# Altium schematic symbol library UNTClibrary.SchLib: 230 symbols (part 1 of 2)
Pins are listed as number, name and electrical type; pins without a type are passive.

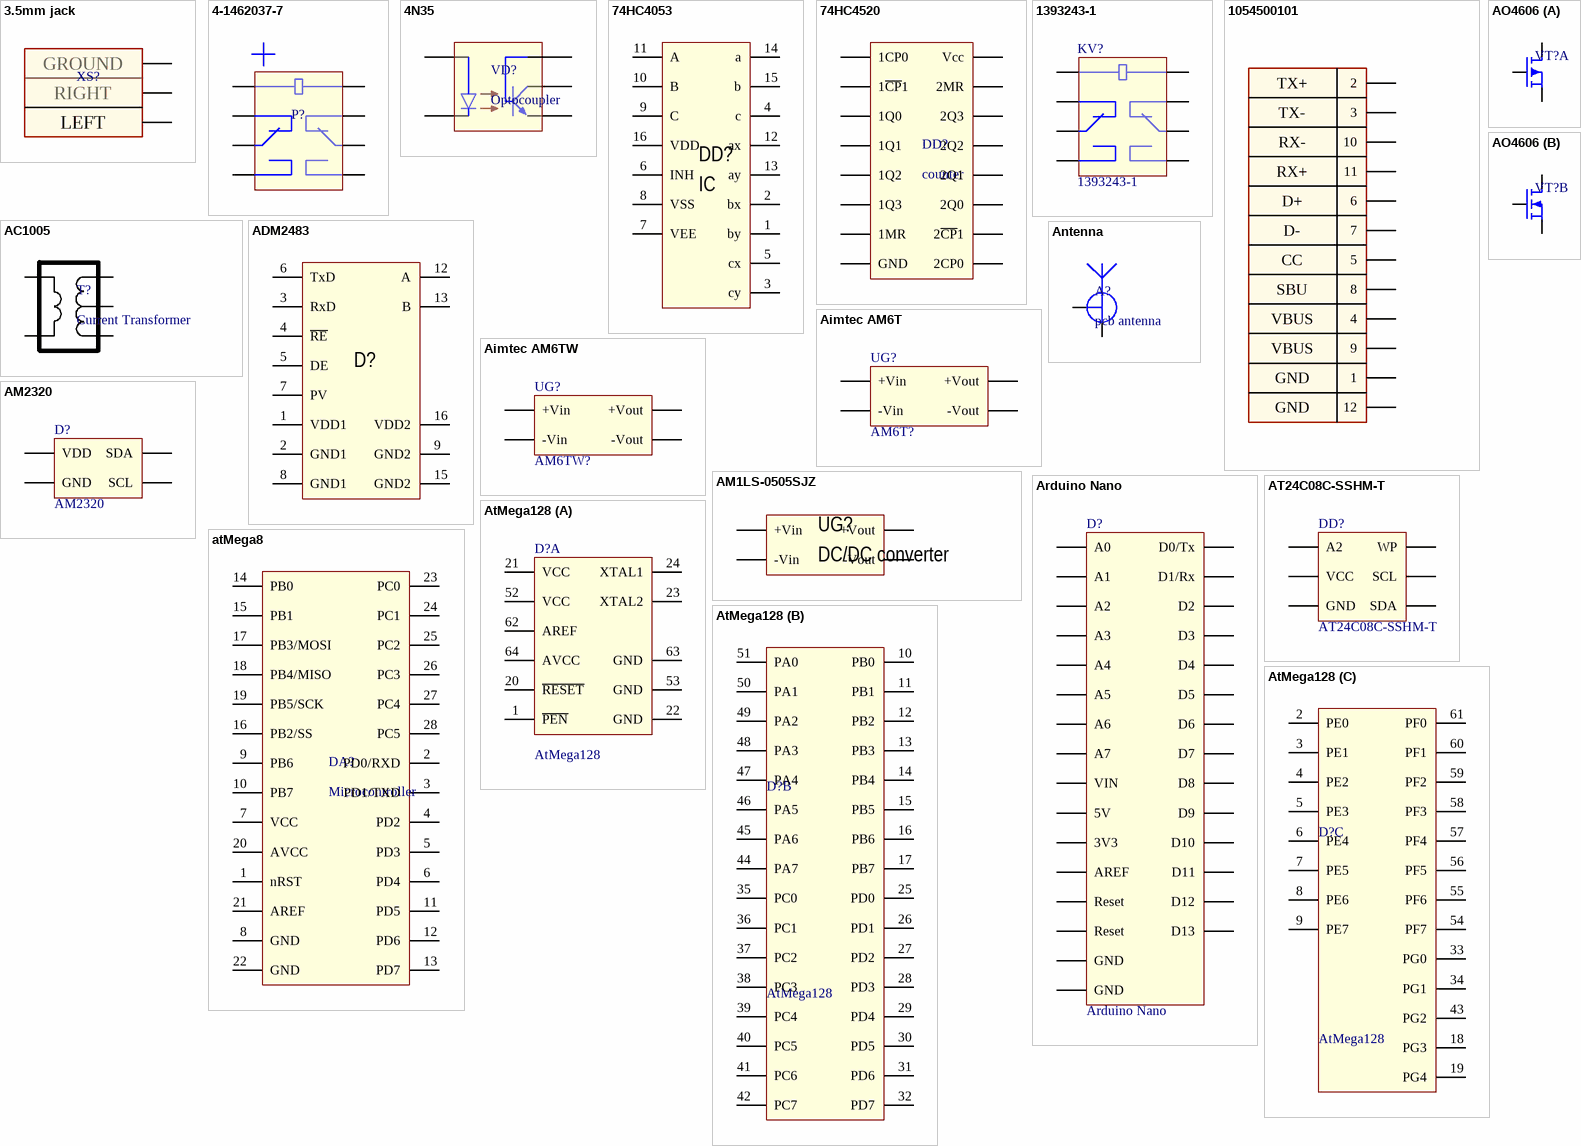
[diagram p0: symbols 3.5mm jack to AtMega128]

## 3.5mm jack
designator XS?, comment Connector  (value not drawn)
Audio Jack; Part Number: *
footprint 3.5 MM JACK
pins: 0 hidden, 1 G, 2, 3
text: GROUND; RIGHT; LEFT

## 4-1462037-7
designator P?, comment Electromagnetic relay  (value not drawn)
Relay; Part Number: TQ2-12V
footprint 4-1462037-7 (Relay signal)
pins: 1, 2, 3, 4, 5 7, 6, 7, 8

## 4N35
designator VD?, comment Optocoupler
Part Number: 4N35
footprint DIP6
pins: 1, 2 NC hidden, 3, 4, 5, 6

## 74HC4053
designator DD?, comment IC
Multiplexer analog; Manufacturer: NXP/ Nexperia; Part Number: 74HC4053; URL: https://assets.nexperia.com/documents/data-sheet/74HC_HCT4053.pdf
footprint SO16
pins: 1 by, 2 bx, 3 cy, 4 c, 5 cx, 6 INH, 7 VEE, 8 VSS, 9 C, 10 B, 11 A, 12 ax, 13 ay, 14 a, 15 b, 16 VDD

## 74HC4520
designator DD?, comment counter
Part Number: 74HC4520
footprint SO16
pins: 1 1CP0, 2 1~{CP}1, 3 1Q0, 4 1Q1, 5 1Q2, 6 1Q3, 7 1MR, 8 GND, 9 2CP0, 10 2~{CP}1, 11 2Q0, 12 2Q1, 13 2Q2, 14 2Q3, 15 2MR, 16 Vcc

## 1393243-1
designator KV?, comment Part Number: 1393243-1  (hidden comment: Electromagnetic relay)
Relay
footprint 1393243-1 (Relay RTE24005)
pins: 1, 2, 3, 4, 5, 6, 7, 8

## 1054500101
designator *
footprint 1054500101 (USB Type-C)
pins: 1, 2, 3, 4, 5, 6, 7, 8, 9, 10, 11, 12, NC hidden
text: TX+; TX-; RX-; RX+; D+; D-; CC; SBU; VBUS; GND

## AC1005
designator T?, comment Current Transformer
Part Number: AC1005
footprint AC1005
pins: 1, 2, 3, 4, 5

## ADM2483
designator D?, comment IC  (value not drawn)
RS-485 transceiver Isolated; Manufacturer: AD; URL: https://www.analog.com/media/en/technical-documentation/data-sheets/adm2483.pdf
footprint SOIC_W16 (SOP, 16-Leads, Body 10,30x7,50mm, Pitch 1,27mm, IPC Medium Density)
pins: 1 VDD1, 2 GND1, 3 RxD, 4 ~{RE}, 5 DE, 6 TxD, 7 PV, 8 GND1, 9 GND2, 10 NC hidden, 11 NC hidden, 12 A, 13 B, 14 NC hidden, 15 GND2, 16 VDD2

## Aimtec AM6T
designator UG?, comment Part Number: AM6T?  (hidden comment: DC/DC converter)
footprint Aimtec AM6T
pins: 2 -Vin, 14 +Vout, 16 -Vout, 22 +Vin

## Aimtec AM6TW
designator UG?, comment Part Number: AM6TW?  (hidden comment: DC/DC converter)
footprint Aimtec AM6TW
pins: 1 +Vin, 2 -Vin, 3 +Vout, 4 -Vout

## AM1LS-0505SJZ
designator UG?, comment DC/DC converter
Manufacturer: Aimtec
footprint AM1LS-NZ
pins: 0 hidden, 1 -Vin, 2 +Vin, 3 -Vout, 4 +Vout

## AM2320
designator D?
Temperature/Humadity Module; Part Number: AM2320
footprint AM2320 without CASE
footprint AM2320 bended
pins: GND, SCL, SDA, VDD

## Antenna
designator A?, comment pcb antenna  (net tie, no BOM)
Antenna on PCB (no BOM)
footprint PCB antenna 13.56 MHz (PCB antenna)
footprint PCB antenna 2 (PCB antenna 35х35)
pins: 1, 2

## AO4606
designator VT?, comment Transistor N-channel dual  (value not drawn)
Part Number: AO4606
footprint SOP-8 (transistor dual) (2xP-ch transistor)
part A pins: D2 6, G2 1, S2 5
part B pins: D1 4, G1 3, S1 2

## Arduino Nano
designator D?
Part Number: Arduino Nano
footprint Arduino Nano
pins: 1 D0/Tx, 2 D1/Rx, 3 Reset, 4 GND, 5 D2, 6 D3, 7 D4, 8 D5, 9 D6, 10 D7, 11 D8, 12 D9, 13 D10, 14 D11, 15 D12, 16 D13, 17 3V3, 18 AREF, 19 A0, 20 A1, 21 A2, 22 A3, 23 A4, 24 A5, 25 A6, 26 A7, 27 5V, 28 Reset, 29 GND, 30 VIN

## AT24C08C-SSHM-T
designator DD?, comment Part Number: AT24C08C-SSHM-T  (hidden comment: EEPROM)
footprint SOP-8
pins: 1 NC hidden, 2 NC hidden, 3 A2, 4 GND, 5 SDA, 6 SCL, 7 WP, 8 VCC

## atMega8
designator DA?, comment Microcontroller
Manufacturer: Microchip; Part Number: ATmega8L-8AU; URL: https://ww1.microchip.com/downloads/en/DeviceDoc/Atmel-2486-8-bit-AVR-microcontroller-ATmega8_L_datasheet.pdf
footprint DIP28
pins: 1 nRST, 2 PD0/RXD, 3 PD1/TXD, 4 PD2, 5 PD3, 6 PD4, 7 VCC, 8 GND, 9 PB6, 10 PB7, 11 PD5, 12 PD6, 13 PD7, 14 PB0, 15 PB1, 16 PB2/SS, 17 PB3/MOSI, 18 PB4/MISO, 19 PB5/SCK, 20 AVCC, 21 AREF, 22 GND, 23 PC0, 24 PC1, 25 PC2, 26 PC3, 27 PC4, 28 PC5

## AtMega128
designator D?
Microcontroller; Part Number: AtMega128
footprint TQFP-64
part A pins: 1 ~{PEN}, 20 ~{RESET}, 21 VCC, 22 GND, 23 XTAL2, 24 XTAL1, 52 VCC, 53 GND, 62 AREF, 63 GND, 64 AVCC
part B pins: 10 PB0, 11 PB1, 12 PB2, 13 PB3, 14 PB4, 15 PB5, 16 PB6, 17 PB7, 25 PD0, 26 PD1, 27 PD2, 28 PD3, 29 PD4, 30 PD5, 31 PD6, 32 PD7, 35 PC0, 36 PC1, 37 PC2, 38 PC3, 39 PC4, 40 PC5, 41 PC6, 42 PC7, 44 PA7, 45 PA6, 46 PA5, 47 PA4, 48 PA3, 49 PA2, 50 PA1, 51 PA0
part C pins: 2 PE0, 3 PE1, 4 PE2, 5 PE3, 6 PE4, 7 PE5, 8 PE6, 9 PE7, 18 PG3, 19 PG4, 33 PG0, 34 PG1, 43 PG2, 54 PF7, 55 PF6, 56 PF5, 57 PF4, 58 PF3, 59 PF2, 60 PF1, 61 PF0

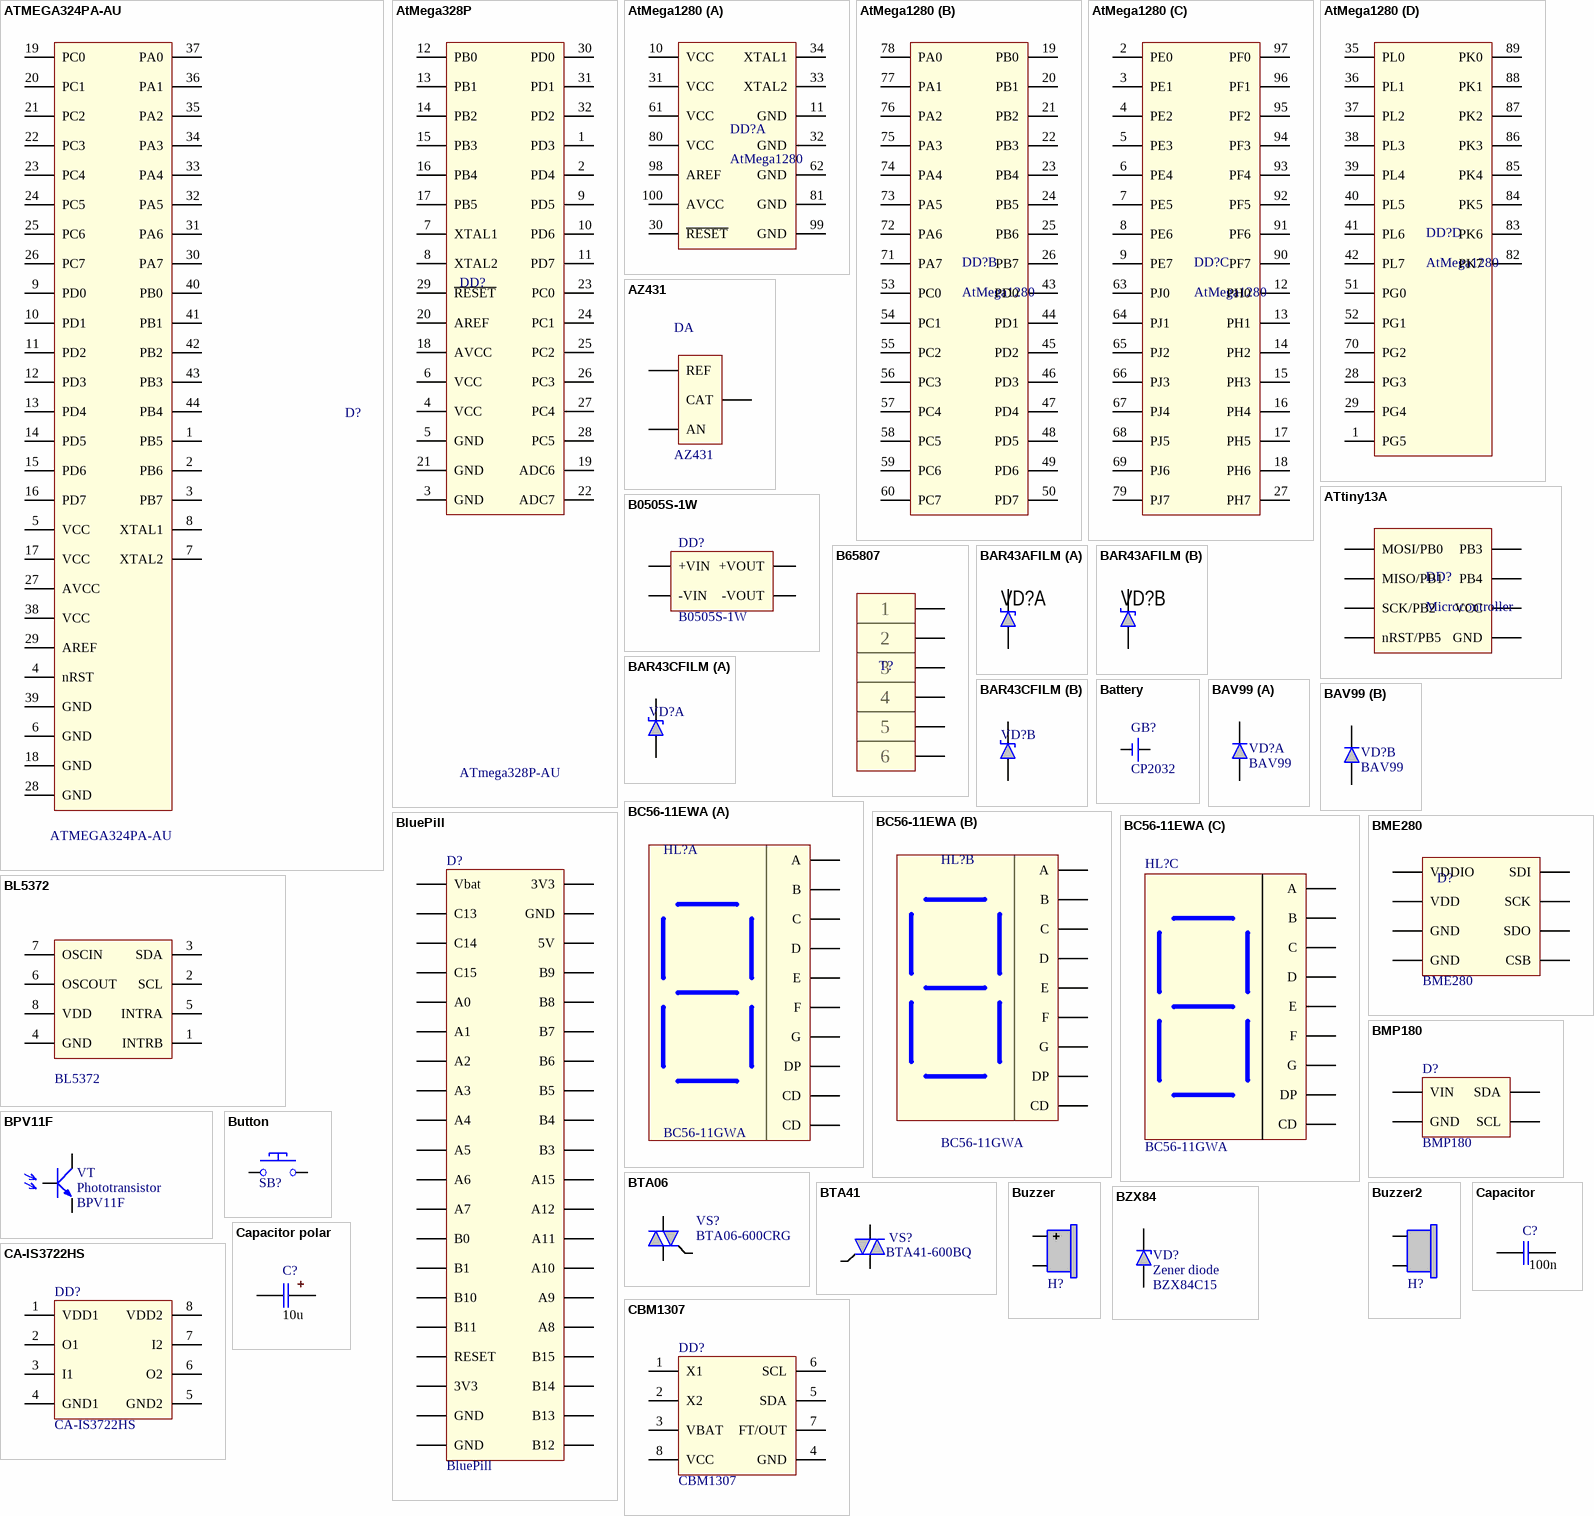
[diagram p1: symbols ATMEGA324PA-AU to CBM1307]

## ATMEGA324PA-AU
designator D?, comment Part Number: ATMEGA324PA-AU  (hidden comment: Microcontroller)
Manufacturer: Microchip; URL: *
footprint TQFP44 (TQFP, 44-Leads, Body 10,00x10,00mm, Pitch 0,80mm, IPC Medium Density)
pins: 1 PB5, 2 PB6, 3 PB7, 4 nRST, 5 VCC, 6 GND, 7 XTAL2, 8 XTAL1, 9 PD0, 10 PD1, 11 PD2, 12 PD3, 13 PD4, 14 PD5, 15 PD6, 16 PD7, 17 VCC, 18 GND, 19 PC0, 20 PC1, 21 PC2, 22 PC3, 23 PC4, 24 PC5, 25 PC6, 26 PC7, 27 AVCC, 28 GND, 29 AREF, 30 PA7, 31 PA6, 32 PA5, 33 PA4, 34 PA3, 35 PA2, 36 PA1, 37 PA0, 38 VCC, 39 GND, 40 PB0, 41 PB1, 42 PB2, 43 PB3, 44 PB4

## AtMega328P
designator DD?, comment Part Number: ATmega328P-AU  (hidden comment: Microcontroller)
Manufacturer: Microchip; ComponentLink1Description: New link; ComponentLink1URL: http://ww1.microchip.com/downloads/en/DeviceDoc/Atmel-7810-Automotive-Microcontrollers-ATmega328P_Datasheet.pdf
footprint TQFP32 (TQFP, 32-Leads, Body 7,00x7,00mm, Pitch 0,80mm, IPC Medium Density)
pins: 1 PD3, 2 PD4, 3 GND, 4 VCC, 5 GND, 6 VCC, 7 XTAL1, 8 XTAL2, 9 PD5, 10 PD6, 11 PD7, 12 PB0, 13 PB1, 14 PB2, 15 PB3, 16 PB4, 17 PB5, 18 AVCC, 19 ADC6, 20 AREF, 21 GND, 22 ADC7, 23 PC0, 24 PC1, 25 PC2, 26 PC3, 27 PC4, 28 PC5, 29 ~{RESET}, 30 PD0, 31 PD1, 32 PD2

## AtMega1280
designator DD?
footprint TQFP-100 (pitch 0.5 mm)
part A pins: 10 VCC, 11 GND, 30 ~{RESET}, 31 VCC, 32 GND, 33 XTAL2, 34 XTAL1, 61 VCC, 62 GND, 80 VCC, 81 GND, 98 AREF, 99 GND, 100 AVCC
part B pins: 19 PB0, 20 PB1, 21 PB2, 22 PB3, 23 PB4, 24 PB5, 25 PB6, 26 PB7, 43 PD0, 44 PD1, 45 PD2, 46 PD3, 47 PD4, 48 PD5, 49 PD6, 50 PD7, 53 PC0, 54 PC1, 55 PC2, 56 PC3, 57 PC4, 58 PC5, 59 PC6, 60 PC7, 71 PA7, 72 PA6, 73 PA5, 74 PA4, 75 PA3, 76 PA2, 77 PA1, 78 PA0
part C pins: 2 PE0, 3 PE1, 4 PE2, 5 PE3, 6 PE4, 7 PE5, 8 PE6, 9 PE7, 12 PH0, 13 PH1, 14 PH2, 15 PH3, 16 PH4, 17 PH5, 18 PH6, 27 PH7, 63 PJ0, 64 PJ1, 65 PJ2, 66 PJ3, 67 PJ4, 68 PJ5, 69 PJ6, 79 PJ7, 90 PF7, 91 PF6, 92 PF5, 93 PF4, 94 PF3, 95 PF2, 96 PF1, 97 PF0
part D pins: 1 PG5, 28 PG3, 29 PG4, 35 PL0, 36 PL1, 37 PL2, 38 PL3, 39 PL4, 40 PL5, 41 PL6, 42 PL7, 51 PG0, 52 PG1, 70 PG2, 82 PK7, 83 PK6, 84 PK5, 85 PK4, 86 PK3, 87 PK2, 88 PK1, 89 PK0

## ATtiny13A
designator DD?, comment Microcontroller
Part Number: ATtiny13A-PU; Manufacturer: Microchip
footprint SOIC-8 (SOIC, 8-Leads, Body 5,28x5,28mm, Pitch 1,27mm, IPC Medium Density)
pins: 1 nRST/PB5, 2 PB3, 3 PB4, 4 GND, 5 MOSI/PB0, 6 MISO/PB1, 7 SCK/PB2, 8 VCC

## AZ431
designator DA, comment Part Number: AZ431  (hidden comment: shunt regulator)
Adjustable precision shunt regulator
footprint SOT23-3
pins: 1 REF, 2 CAT, 3 AN

## B0505S-1W
designator DD?, comment Part Number: B0505S-1W  (hidden comment: DC/DC converter)
footprint B0505S
pins: 1 -Vin, 2 +Vin, 3 -Vout, 4 +Vout
text: +VIN; +VOUT; -VIN; -VOUT

## B65807
designator T?, comment Transformer  (value not drawn)
Part Number: B65807
footprint RM-6, EPCOS
pins: 0 1 hidden, 1, 2, 3, 4, 5, 6

## BAR43AFILM
designator VD?, comment Schottky diode  (value not drawn)
Diode Schottky; Manufacturer: ST; Part Number: BAR43AFILM
footprint SOT23-3
part A pins: 2, 3
part B pins: 1, 3

## BAR43CFILM
designator VD?, comment Schottky diode  (value not drawn)
Diode Schottky; Part Number: BAR43CFILM
footprint SOT23-3
part A pins: 1, 3
part B pins: 2, 3

## Battery
designator GB?, comment Part Number: CP2032  (hidden comment: Battery holder)
footprint Battery
pins: +, -

## BAV99
designator VD?, comment Part Number: BAV99  (hidden comment: Diode double)
Diode anode/cathode
footprint SOT23-3
part A pins: 2, 3
part B pins: 1, 3

## BC56-11EWA
designator HL?, comment Part Number: BC56-11GWA  (hidden comment: 7-Digit Display)
Manufacturer: Kingbright
footprint BC56-11EWA
part A pins: 1 E, 2 D, 3 CD, 4 C, 5 DP, 24 B, 25 A, 26 CD, 27 F, 28 G
part B pins: 6 E, 7 D, 8 C, 9 DP, 19 CD, 20 B, 21 A, 22 G, 23 F
part C pins: 10 E, 11 D, 12 G, 13 C, 14 DP, 15 B, 16 A, 17 F, 18 CD

## BL5372
designator D?, comment Part Number: BL5372  (hidden comment: RTC IC)
footprint SOP-8
pins: 1 INTRB, 2 SCL, 3 SDA, 4 GND, 5 INTRA, 6 OSCOUT, 7 OSCIN, 8 VDD

## BluePill
designator D?
footprint BluePill (Development board for STM32F103C8T6)
pins: 1 Vbat, 2 C13, 3 C14, 4 C15, 5 A0, 6 A1, 7 A2, 8 A3, 9 A4, 10 A5, 11 A6, 12 A7, 13 B0, 14 B1, 15 B10, 16 B11, 17 RESET, 18 3V3, 19 GND, 20 GND, 21 3V3, 22 GND, 23 5V, 24 B9, 25 B8, 26 B7, 27 B6, 28 B5, 29 B4, 30 B3, 31 A15, 32 A12, 33 A11, 34 A10, 35 A9, 36 A8, 37 B15, 38 B14, 39 B13, 40 B12

## BME280
designator D?, comment Part Number: BME280  (hidden comment: Pressure & humidity sensor)
footprint BME280 (Pressure and humidity sensor)
pins: 1 GND, 2 CSB, 3 SDI, 4 SCK, 5 SDO, 6 VDDIO, 7 GND, 8 VDD

## BMP180
designator D?, comment Part Number: BMP180  (hidden comment: Pressure sensor)
footprint BMP180
footprint BMP180 rotated
pins: GND, SCL, SDA, VIN

## BPV11F
designator VT, comment Phototransistor  Part Number: BPV11F
Manufacturer: Vishay
footprint BPV11F
pins: B 1, C, E

## BTA06
designator VS?, comment Part Number: BTA06-600CRG  (hidden comment: Simistor)
footprint TO220
pins: 1, 2, 3

## BTA41
designator VS?, comment Part Number: BTA41-600BQ  (hidden comment: Simistor)
footprint TO3
pins: 1, 2, 3

## Button
designator SB?, comment Tact Switch  (value not drawn)
Part Number: KLS7-TS6601-11-180
footprint Button h=9mm (Tactal Switch -Thru (6mmx 6mmx9.0mm))
footprint Button SMD
footprint IT-1189UE (button)
pins: 1, 2

## Buzzer
designator H?  (value not drawn)
Part Number: HCM1201X
footprint HCM1201X
pins: +, -

## Buzzer2
designator H?, comment Buzzer  (value not drawn)
Part Number: W-25A
footprint W-25
footprint HPM14A
pins: 1, 2

## BZX84
designator VD?, comment Zener diode  Part Number: BZX84C15
Diode Zener SOT-23
footprint SOT23-3
pins: 1, 3

## CA-IS3722HS
designator DD?, comment Part Number: CA-IS3722HS  (hidden comment: IC)
Digital Isolator
footprint SOP-8
pins: 1 VDD1, 2 O1, 3 I1, 4 GND1, 5 GND2, 6 O2, 7 I2, 8 VDD2

## Capacitor
designator C?  value 100n  (hidden comment: Capacitor)
Capacitor non-polar; Part Number: 0805 X7R 0.1 мкФ 50В 10%; Тип компонента: Конденсатор; Наименование: 0805 X7R 0.1 мкФ 50В 10%
footprint C0805 (Chip Capacitor, 2-Leads, Body 2,00x1,25mm, IPC Medium Density)
footprint C0402 (Chip Capacitor, 0402)
footprint CAP 25mm
footprint C1206
footprint C0603 (Chip Capacitor, 2-Leads, Body 1,55x0,85mm, IPC Medium Density)
footprint B32022A3223M (Cap Film Suppression Y2)
footprint B32922C3474K (Cap Film Suppression X2)
footprint CAP 19mm (19х10.5х15 metal film)
footprint CAP 35mm (capacitor)
pins: 1, 2

## Capacitor polar
designator C?, comment value 10u  (hidden comment: Capacitor)
Capacitor polar; Part Number: Тантал C 10 мкФ 35В 10%
footprint CAP polar smd 8x10.5 (Aluminum Electrolytic Capacitor, Body 8,30x8,30x11,50mm, IPC Low Density)
footprint CAP 5mm 2 holes
footprint CAP ELEC 6.3x5.4
footprint CAP ELEC 6.3x7.7
footprint CAP SMD B (Molded Diode, 2-Leads, Body 5,35x3,63mm, IPC Medium Density)
footprint CAP POLAR 6.3 11
footprint CAP SMD D (Molded Capacitor, 2-Leads, Body 7,30x4,30mm, IPC Medium Density)
footprint CAP 10x10.5
footprint CAP SMD C
footprint CAP SMD A (3216, DO-214AC)
footprint CAP POLAR 13 25
footprint CAP 25x40 (Electrolytic cap)
footprint CAP POLAR 18 36
footprint CAP POLAR 8 12
footprint CAP POLAR 10 12
pins: 1, 2

## CBM1307
designator DD?, comment Part Number: CBM1307  (hidden comment: EEPROM)
footprint SOP-8
pins: 1 X1, 2 X2, 3 VBAT, 4 GND, 5 SDA, 6 SCL, 7 FT/OUT, 8 VCC

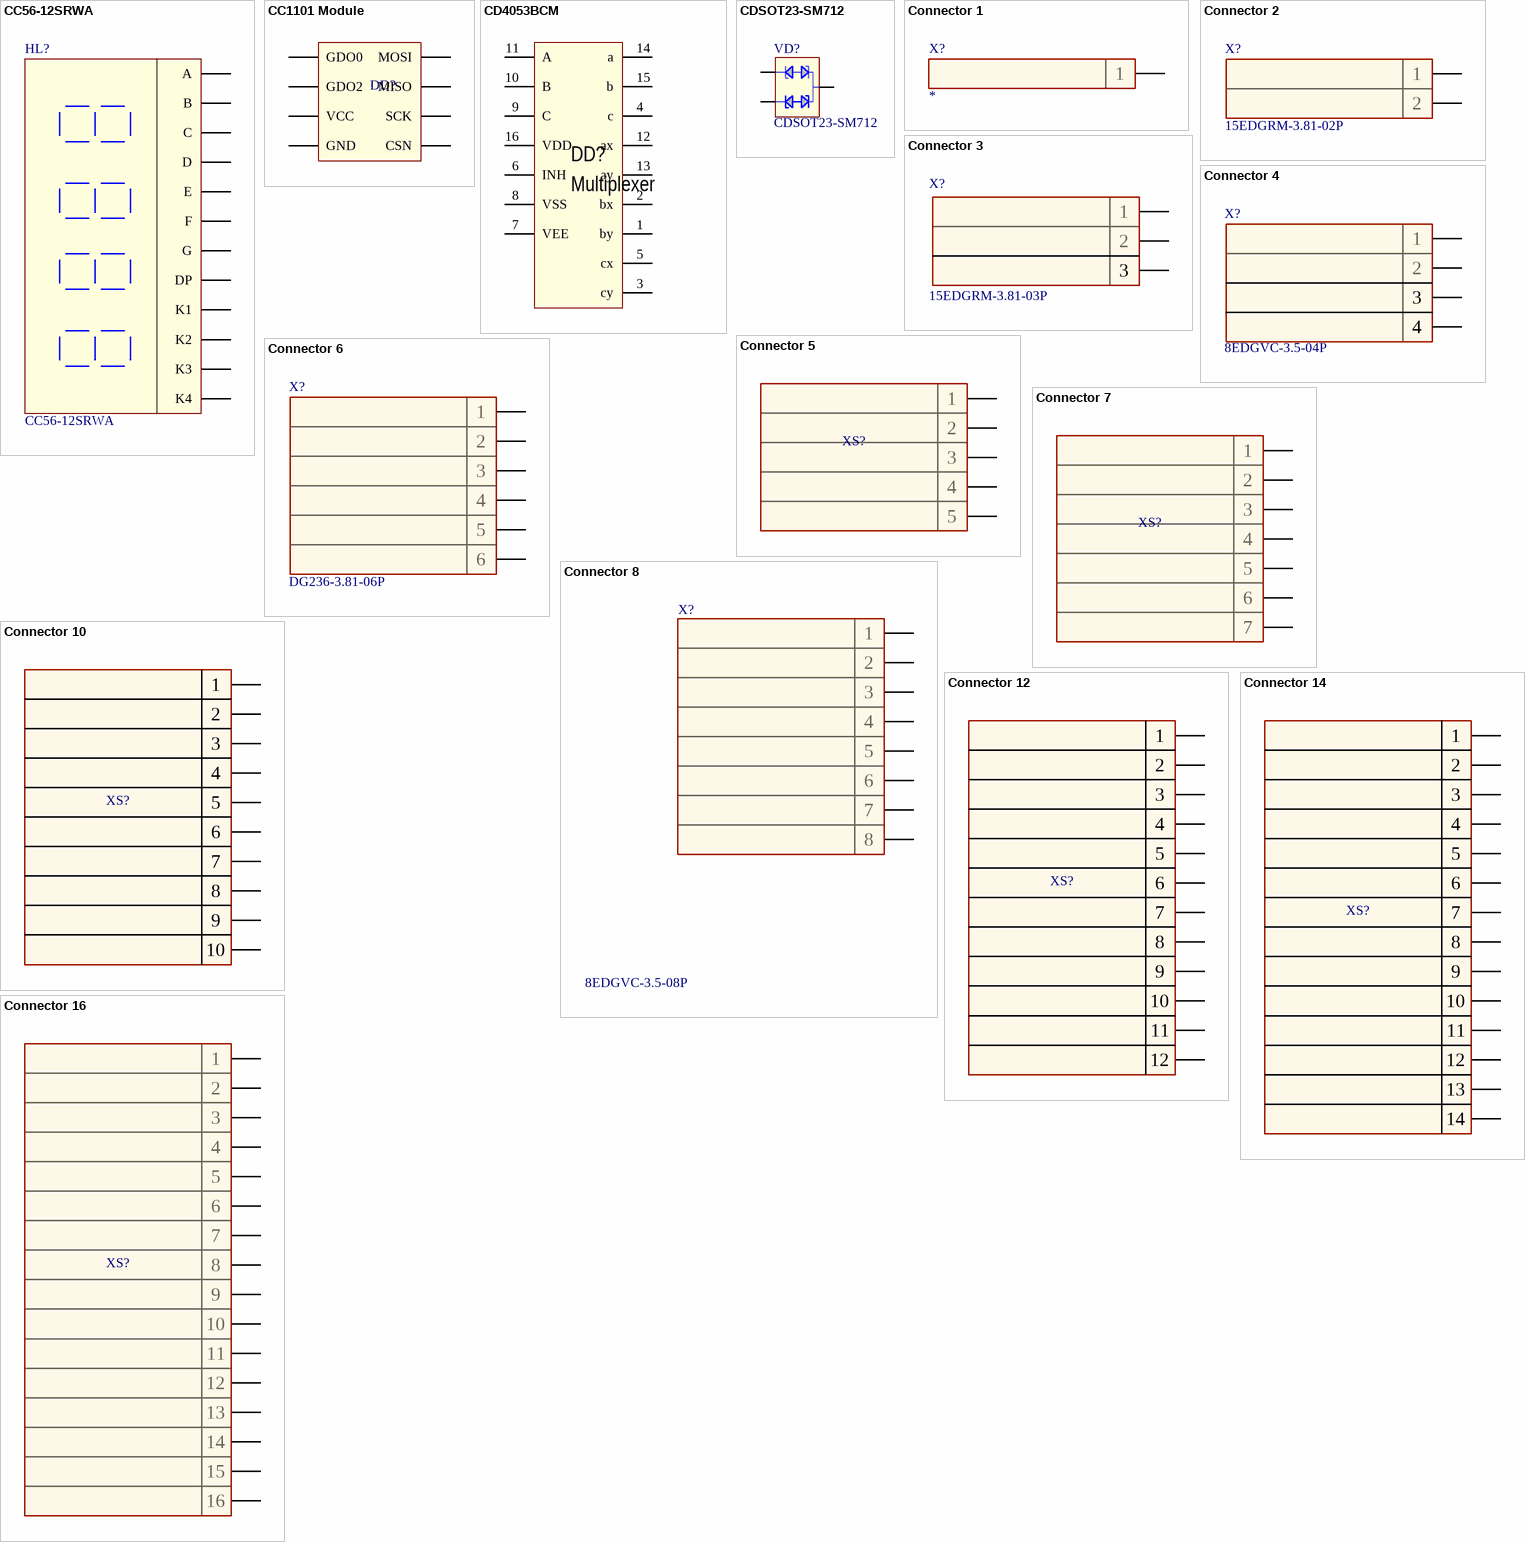
[diagram p2: symbols CC56-12SRWA to Connector 16]

## CC56-12SRWA
designator HL?, comment Part Number: CC56-12SRWA  (hidden comment: 7-Digit Display)
7-Digit Display 4 digit common cathode; Manufacturer: Kingbright
footprint CC56-12SRWA (4digit 7-segment digit)
pins: A, B, C, D, DP, E, F, G, K1, K2, K3, K4

## CC1101 Module
designator DD?, comment Sub-GHz transceiver  (value not drawn)
Sub-GHz transceiver Module; Part Number: CC1101 module
footprint CC1101 module (838MHz)
pins: 1 VCC, 2 GND, 3 MOSI, 4 SCK, 5 MISO, 6 GDO2, 7 GDO0, 8 CSN

## CD4053BCM
designator DD?, comment Multiplexer
Part Number: CD4053BCM
footprint SOP16 (SOP, 16-Leads, Body 10,20x5,30mm, Pitch 1,27mm, IPC Medium Density)
pins: 1 by, 2 bx, 3 cy, 4 c, 5 cx, 6 INH, 7 VEE, 8 VSS, 9 C, 10 B, 11 A, 12 ax, 13 ay, 14 a, 15 b, 16 VDD

## CDSOT23-SM712
designator VD?, comment Part Number: CDSOT23-SM712  (hidden comment: TVS Diode)
Diode TVS
footprint SOT23-3
pins: 1, 2, 3

## Connector 1
designator X?, comment Connector  (value not drawn)
Part Number: *
footprint 1 Hole (1mm)
footprint 236-401 (8191 FK1)
pins: 1

## Connector 2
designator X?, comment Part Number: 15EDGRM-3.81-02P  (hidden comment: Connector)
footprint 15EDGRM-3.5-2
footprint 2 Holes
footprint 15EDGRM-3.81-02P
footprint Wago 735-123
footprint WF-2R
footprint 2 Holes (small pad)
footprint 236-402 (8191 FK2)
footprint wf-2
footprint 15EDGVC-3.5-02P
footprint 15EDGRC-3.5-02P
footprint 8EDGVC-3.5-02P (734-132)
footprint DG236-3.81-02P (735-122, Wago)
footprint PLS-02
footprint 8EDGRC-3.5-02P (734-132)
footprint DG301-5.0-02P
pins: 1, 2

## Connector 3
designator X?, comment Part Number: 15EDGRM-3.81-03P  (hidden comment: Connector)
footprint 15EDGRM-3.81-03P
footprint wf-3
footprint 3 Holes (2)
footprint 236-403 (8191 FK3)
footprint 15EDGRC-3.5-03P
footprint 15EDGVC-3.5-03P
footprint WF-3R
footprint 8EDGVC-3.5-03P (734-133)
footprint DG236-3.81-03P (735-123, Wago)
footprint PLS-03
footprint DJK-02A (Power connector)
pins: 1, 2, 3

## Connector 4
designator X?, comment Part Number: 8EDGVC-3.5-04P  (hidden comment: Connector)
footprint header 2x2 Female
footprint 15EDGRM-3.81-04P
footprint wf-4
footprint 4 Holes
footprint wf-4R
footprint 8EDGVC-3.5-04P (734-134)
footprint 530480410 (header 4)
footprint 4 Holes (2)
footprint 236-404 (8191 FK4)
footprint 8EDGRC-3.5-04P (734-132)
footprint 15EDGRC-3.5-04P
footprint PLS-04
footprint PBS-04
footprint DG236-3.81-04P (735-124, Wago)
footprint 15EDGVC-3.5-04P
footprint DS1020-02-04
pins: 1, 2, 3, 4

## Connector 5
designator XS?, comment Connector  (value not drawn)
Part Number: 8EDGVC-3.5-05P
footprint header 5x2 female pairs (pairs)
footprint wf-5
footprint 8EDGVC-3.5-05P (734-135)
footprint 5HOLES
footprint 8EDGRC-3.5-05P (734-132)
footprint 15EDGRC-3.5-05P
pins: 1, 2, 3, 4, 5

## Connector 6
designator X?, comment Part Number: DG236-3.81-06P  (hidden comment: Connector)
footprint IDC-06M
footprint wf-6
footprint IDC-06M(empty)
footprint 8EDGVC-3.5-06P (734-136)
footprint DG236-3.81-06P (735-126, Wago)
footprint 236-406 (8191 FK6)
footprint HEADER 3x2 SMD (male)
footprint 8EDGRC-3.5-06P (734-132)
footprint PLD-6
footprint 15EDGRC-3.5-06P
footprint 15EDGVC-3.5-06P
pins: 1, 2, 3, 4, 5, 6

## Connector 7
designator XS?, comment Connector  (value not drawn)
Part Number: 8EDGRC-3.5-07P
footprint 8EDGRC-3.5-07P (734-137)
footprint 15EDGRC-3.5-07P
footprint DS1020-02-07M (Connector 7 pin)
footprint DG245-5.0-07P (8191 FK8)
pins: 1, 2, 3, 4, 5, 6, 7

## Connector 8
designator X?, comment Part Number: 8EDGVC-3.5-08P  (hidden comment: Connector)
Тип компонента: Клемма; Наименование: 8EDGVC-3.5-08P
footprint header 4x2 female R (PBD-08R, DS1024-8)
footprint header 4x2 R MALE (PBD-08R, DS1024-8)
footprint header 4x2 female
footprint 8EDGVC-3.5-08P (734-138)
footprint 8EDGRC-3.5-08P (734-138)
footprint 236-408 (8191 FK8)
footprint IDC-08M
footprint header 4x2 male (PLD-8)
footprint 15EDGRC-3.5-08P
footprint 15EDGVC-3.5-08P
pins: 1, 2, 3, 4, 5, 6, 7, 8

## Connector 10
designator XS?, comment Connector  (value not drawn)
Part Number: IDC-10M
footprint header 5x2 female
footprint IDC-10M
footprint PLD-10
footprint DS1029-04-2X5
pins: 1, 2, 3, 4, 5, 6, 7, 8, 9, 10

## Connector 12
designator XS?, comment Connector  (value not drawn)
Part Number: IDC-12M
footprint IDC-12M
footprint header 12
footprint PLD-12
footprint 15EDGRC-3.5-12P
footprint 15EDGVC-3.5-12P
pins: 1, 2, 3, 4, 5, 6, 7, 8, 9, 10, 11, 12

## Connector 14
designator XS?, comment Connector  (value not drawn)
Part Number: IDC-12M
footprint PLD-14
footprint IDC-14M
pins: 1, 2, 3, 4, 5, 6, 7, 8, 9, 10, 11, 12, 13, 14

## Connector 16
designator XS?, comment Connector  (value not drawn)
Part Number: DIN 3x16
footprint header 16
footprint IDC-16M
footprint DIN 3x16 3inRow
pins: 1, 2, 3, 4, 5, 6, 7, 8, 9, 10, 11, 12, 13, 14, 15, 16

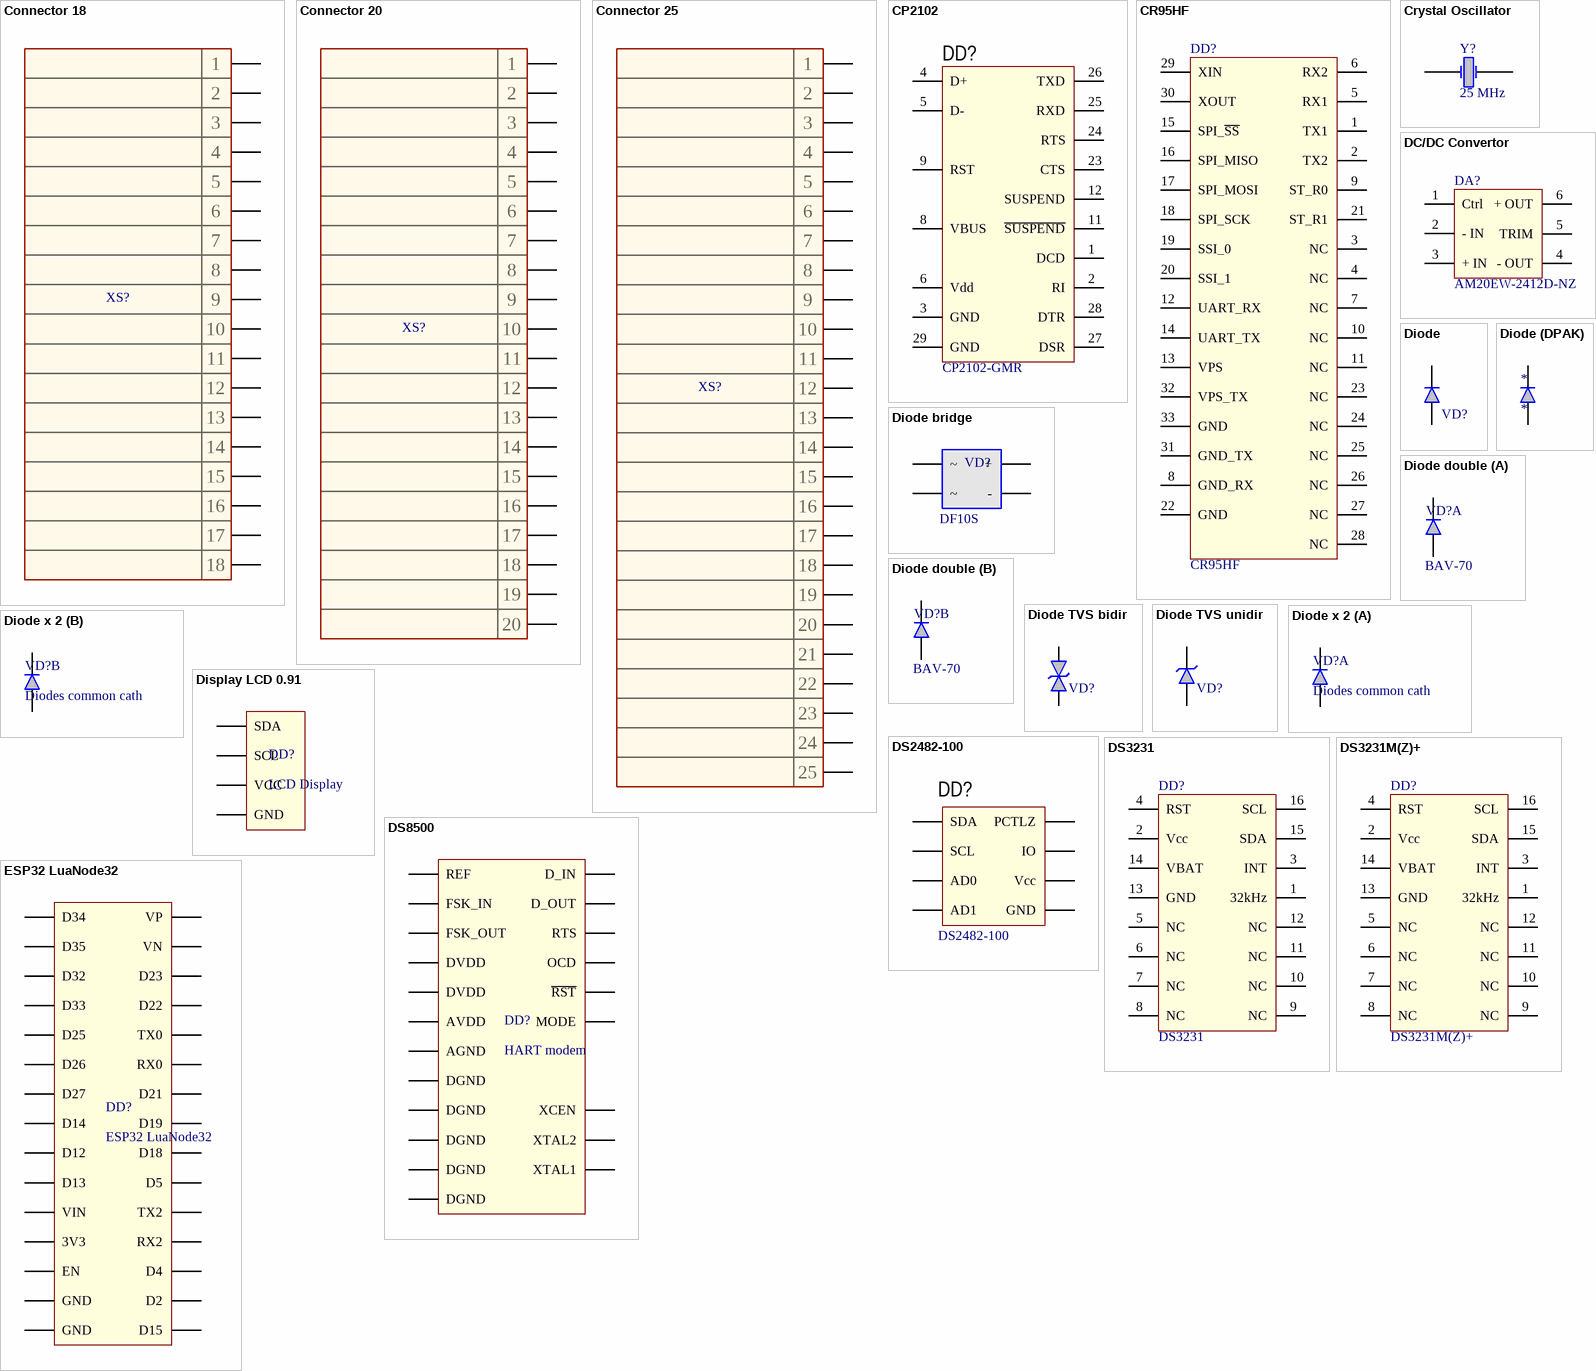
[diagram p3: symbols Connector 18 to ESP32 LuaNode32]

## Connector 18
designator XS?, comment Connector  (value not drawn)
Part Number: PBD-20
footprint HEADER 8x2 SMD (male)
pins: 1, 2, 3, 4, 5, 6, 7, 8, 9, 10, 11, 12, 13, 14, 15, 16, 17, 18

## Connector 20
designator XS?, comment Connector  (value not drawn)
Part Number: PBD-20
footprint header 20 MALE
footprint PLD-20R
footprint PBD-20
footprint header 20
footprint HEADER 10x2 SMD (male)
footprint IDC-20M
footprint PLD2-2x10
footprint PLD-20
footprint PBD-20R
footprint PDB-20 (Vert)
footprint PBD2-20
footprint Edge connector 2x10
pins: 1, 2, 3, 4, 5, 6, 7, 8, 9, 10, 11, 12, 13, 14, 15, 16, 17, 18, 19, 20

## Connector 25
designator XS?, comment Connector  (value not drawn)
Part Number: PBS-25
footprint header 25
pins: 1, 2, 3, 4, 5, 6, 7, 8, 9, 10, 11, 12, 13, 14, 15, 16, 17, 18, 19, 20, 21, 22, 23, 24, 25

## CP2102
designator DD?, comment Part Number: CP2102-GMR  (hidden comment: IC)
USB-UART converter; URL: https://www.silabs.com/documents/public/data-sheets/CP2102-9.pdf
footprint QFN28 (QFN, 28-Leads, Body 5,00x5,00mm, Pitch 0,50mm, Thermal Pad 3,13x3,13mm, IPC Medium Density)
pins: 1 DCD, 2 RI, 3 GND, 4 D+, 5 D-, 6 Vdd, 7 REGIN hidden, 8 VBUS, 9 RST, 10 NC hidden, 11 ~{SUSPEND}, 12 SUSPEND, 13 NC hidden, 14 NC hidden, 15 NC hidden, 16 NC hidden, 17 NC hidden, 18 NC hidden, 19 NC hidden, 20 NC hidden, 21 NC hidden, 22 NC hidden, 23 CTS, 24 RTS, 25 RXD, 26 TXD, 27 DSR, 28 DTR, 29 GND

## CR95HF
designator DD?, comment Part Number: CR95HF  (hidden comment: RF Reader)
footprint QFN32 (QFN, 32-Leads, Body 5,00x5,00mm, Pitch 0,50mm, Thermal Pad 3,10x3,10mm, IPC Medium Density)
pins: 1 TX1, 2 TX2, 3 NC, 4 NC, 5 RX1, 6 RX2, 7 NC, 8 GND_RX, 9 ST_R0, 10 NC, 11 NC, 12 UART_RX, 13 VPS, 14 UART_TX, 15 SPI_~{SS}, 16 SPI_MISO, 17 SPI_MOSI, 18 SPI_SCK, 19 SSI_0, 20 SSI_1, 21 ST_R1, 22 GND, 23 NC, 24 NC, 25 NC, 26 NC, 27 NC, 28 NC, 29 XIN, 30 XOUT, 31 GND_TX, 32 VPS_TX, 33 GND

## Crystal Oscillator
designator Y?  value 25 MHz  (hidden comment: Crystal Oscillator)
footprint hc-49sm
footprint HC-49/S
footprint KX-38 (Quartz crystal)
footprint KX - 13
pins: 1, 2

## DC/DC Convertor
designator DA?  Part Number: AM20EW-2412D-NZ  (hidden comment: DC/DC Convertor)
footprint AM20EW (DC/DC Convertor)
pins: 1 Ctrl, 2 - IN, 3 + IN, 4 - OUT, 5 TRIM, 6 + OUT

## Diode
designator VD?  (value not drawn)
Part Number: M1
footprint DIODE SMD B
footprint DIODE SMD A
footprint SOD123 (SOD, 2-Leads, Body 1,70x3,50mm, IPC Medium Density)
footprint Diode DO-41
footprint DIODE DO-201
pins: A, K

## Diode (DPAK)
designator *
footprint DPAK (diode)
pins: A, K, NC A hidden

## Diode bridge
designator VD?  Part Number: DF10S  (hidden comment: Diode bridge)
footprint DF-S
footprint RS407 (Diode Bridge)
pins: +, -, ~1 ~, ~2 ~

## Diode double
designator VD?, comment Part Number: BAV-70  (hidden comment: Diode dual cathode)
footprint SOT23-3
footprint TO220
part A pins: 2, 3
part B pins: 1, 3

## Diode TVS bidir
designator VD?  (value not drawn)
Diode TVS bidirectional; Part Number: SMBJ33A-TR
footprint DIODE SMD A non-polar
footprint DIODE SMD B NON-POLAR
pins: A, K

## Diode TVS unidir
designator VD?  (value not drawn)
Diode TVS unidirectional; Part Number: SMBJ33A-TR
footprint DIODE SMD B
footprint DIODE SMD A (3216, DO-214AC)
pins: A, K

## Diode x 2
designator VD?, comment Diodes common cath
Part Number: ?
footprint DPAK (diodes)
part A pins: A1, K
part B pins: A2, K

## Display LCD 0.91
designator DD?, comment LCD Display
footprint LCD 0.91inch module
pins: 1 SDA, 2 SCL, 3 VCC, 4 GND

## DS2482-100
designator DD?, comment Part Number: DS2482-100  (hidden comment: 1-Wire I2c Converter)
1-Wire master with I2c Interface; URL: https://datasheets.maximintegrated.com/en/ds/DS2482-100.pdf
footprint SOP-8
pins: 1 Vcc, 2 IO, 3 GND, 4 SCL, 5 SDA, 6 PCTLZ, 7 AD1, 8 AD0

## DS3231
designator DD?, comment Part Number: DS3231  (hidden comment: RTC IC)
footprint SOIC_W16 (SOP, 16-Leads, Body 10,30x7,50mm, Pitch 1,27mm, IPC Medium Density)
pins: 1 32kHz, 2 Vcc, 3 INT, 4 RST, 5 NC, 6 NC, 7 NC, 8 NC, 9 NC, 10 NC, 11 NC, 12 NC, 13 GND, 14 VBAT, 15 SDA, 16 SCL

## DS3231M(Z)+
designator DD?, comment Part Number: DS3231M(Z)+  (hidden comment: RTC IC)
footprint DS3231M(Z) (SO8+SO16)
pins: 1 32kHz, 2 Vcc, 3 INT, 4 RST, 5 NC, 6 NC, 7 NC, 8 NC, 9 NC, 10 NC, 11 NC, 12 NC, 13 GND, 14 VBAT, 15 SDA, 16 SCL

## DS8500
designator DD?, comment HART modem
Part Number: HART modem
footprint PQFN-20 (5x5) (PQFN, 20-Leads, Body 5,00x5,00mm, Pitch 0,65mm, Thermal Pad 2,70x2,70mm, IPC Medium Density)
pins: 1 DVDD, 2 DVDD, 3 DGND, 4 ~{RST}, 5 OCD, 6 RTS, 7 XTAL1, 8 XTAL2, 9 DGND, 10 XCEN, 11 AVDD, 12 FSK_OUT, 13 REF, 14 FSK_IN, 15 AGND, 16 DGND, 17 MODE, 18 DGND, 19 D_OUT, 20 D_IN, 21 DGND

## ESP32 LuaNode32
designator DD?
ESP32 LuaNode32 module; Part Number: ESP32 LuaNode32 module
footprint ESP-32
pins: 3V3, D2, D4, D5, D12, D13, D14, D15, D18, D19, D21, D22, D23, D25, D26, D27, D32, D33, D34, D35, EN, GND, GND2 GND, RX0, RX2, TX0, TX2, VIN, VN, VP

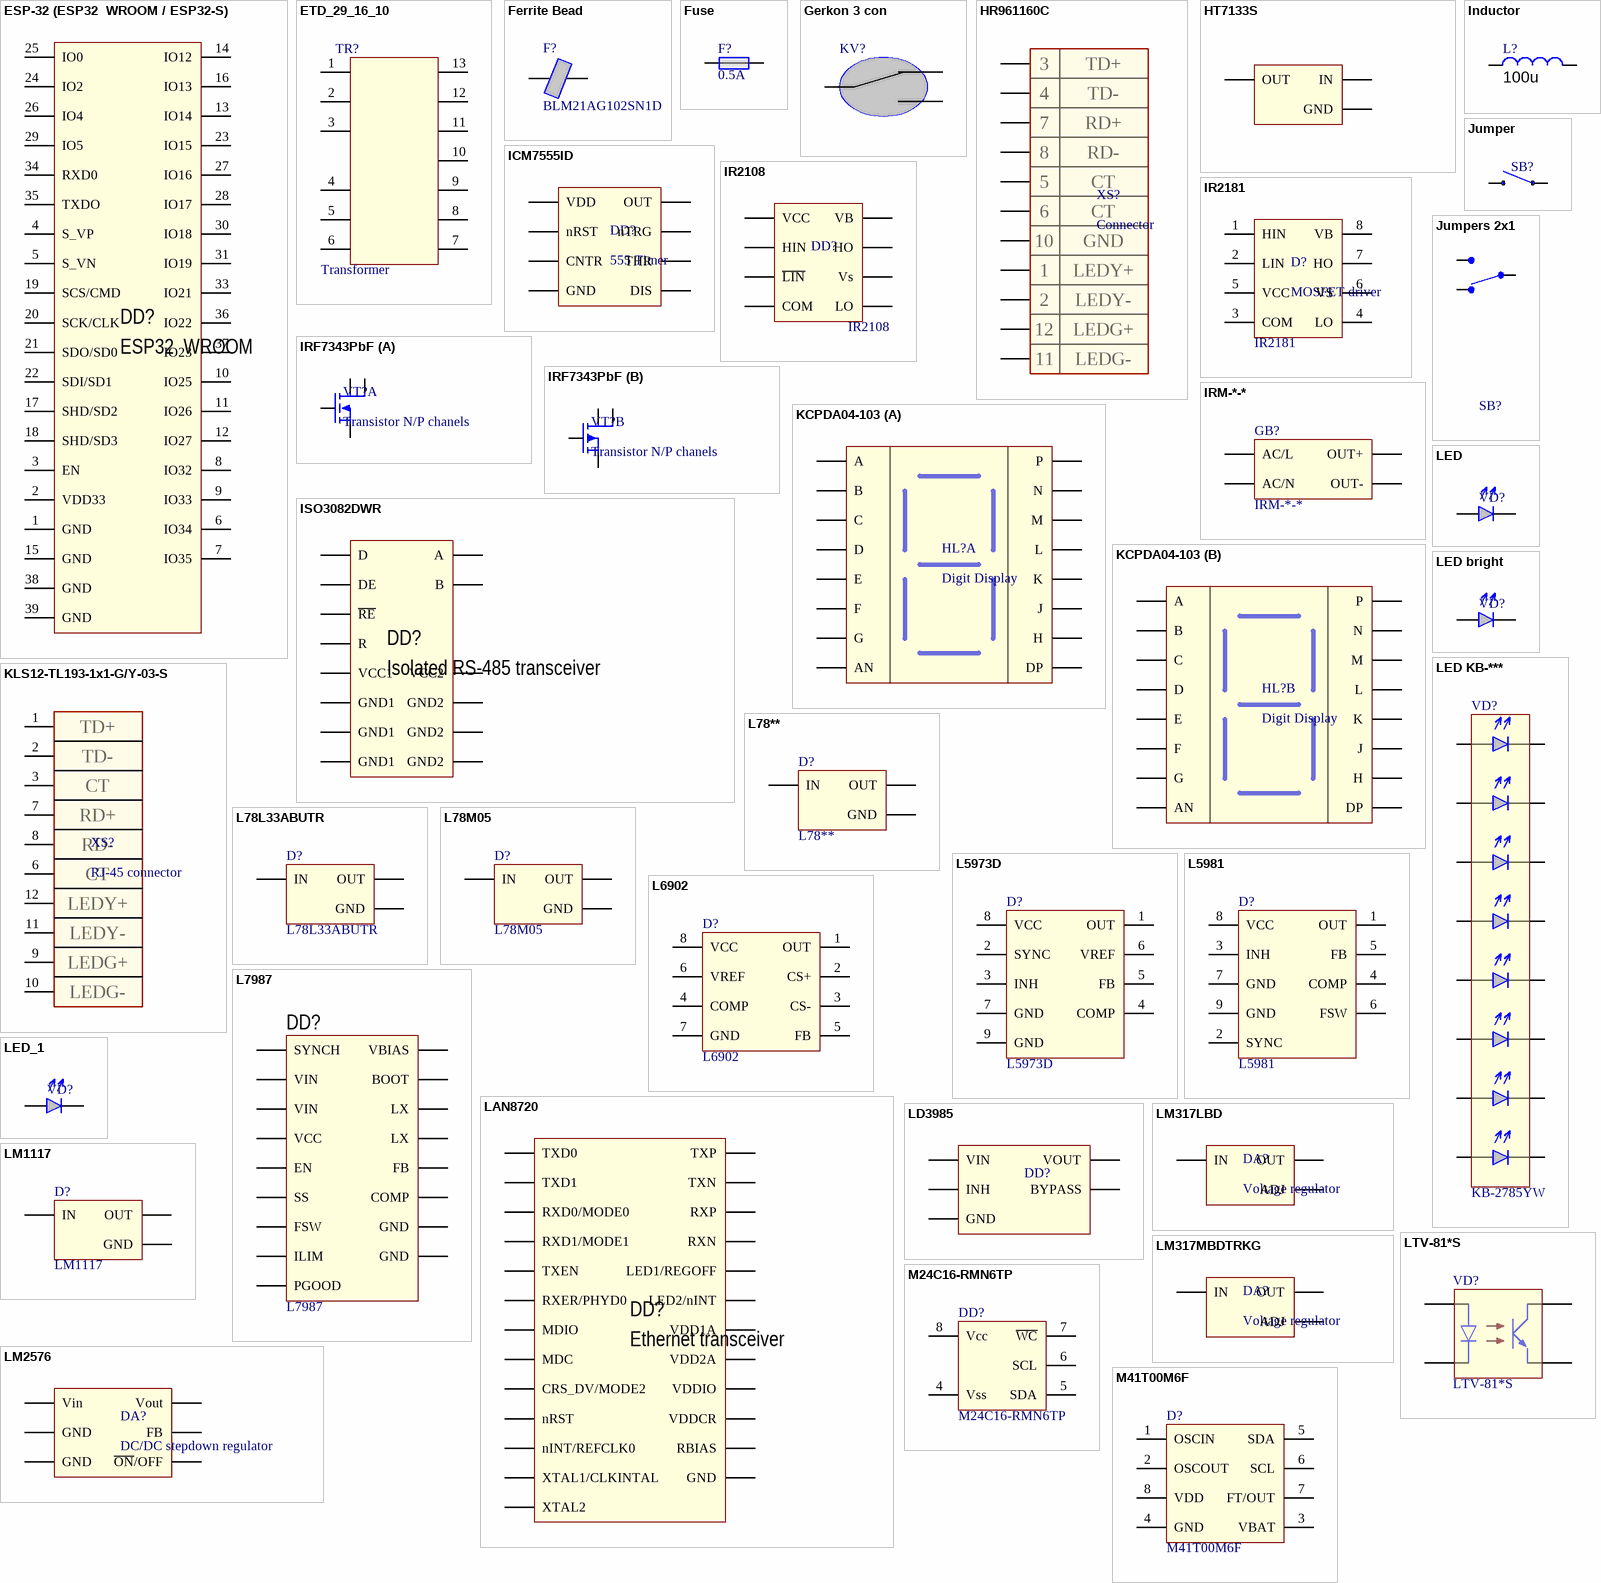
[diagram p4: symbols ESP-32 (ESP32  WROOM / ESP32-S) to M41T00M6F]

## ESP-32 (ESP32  WROOM / ESP32-S)
designator DD?, comment ESP32  WROOM
ESP32  Module; Part Number: ESP32  WROOM
footprint esp32-wroom-32
pins: 1 GND, 2 VDD33, 3 EN, 4 S_VP, 5 S_VN, 6 IO34, 7 IO35, 8 IO32, 9 IO33, 10 IO25, 11 IO26, 12 IO27, 13 IO14, 14 IO12, 15 GND, 16 IO13, 17 SHD/SD2, 18 SHD/SD3, 19 SCS/CMD, 20 SCK/CLK, 21 SDO/SD0, 22 SDI/SD1, 23 IO15, 24 IO2, 25 IO0, 26 IO4, 27 IO16, 28 IO17, 29 IO5, 30 IO18, 31 IO19, 32 NC hidden, 33 IO21, 34 RXD0, 35 TXDO, 36 IO22, 37 IO23, 38 GND, 39 GND

## ETD_29_16_10
designator TR?, comment Transformer
footprint ETD_29_16_10
pins: 1, 2, 3, 4, 5, 6, 7, 8, 9, 10, 11, 12, 13

## Ferrite Bead
designator F?, comment Part Number: BLM21AG102SN1D  (hidden comment: Ferrite bead)
footprint Ferrite Bead 0603 (Ferrite Bead (BLM18AG102SN1D))
footprint Ferrite Bead 0805
pins: 1, 2

## Fuse
designator F?  Current: 0.5A  (hidden comment: Fuse)
Part Number: MF-MSMF050-2
footprint FUSE
footprint fuse (0805)
footprint fuse (1812)
footprint fuse (0679)
footprint VP4
footprint Fuse 0451 (LittleFuse 0451(0452))
footprint FUSE (1206)
pins: 1, 2

## Gerkon 3 con
designator KV?, comment Геркон  (value not drawn)
footprint Gerkon 3 con
footprint КЭМ-3гр0 (Геркон)
pins: C, NC, NO

## HR961160C
designator XS?, comment Connector
RJ-45 with magnetics module; Part Number: HR961160C
footprint HR961160C
pins: 0 hidden, 1, 2, 3, 4, 5, 6, 7, 8, 9 hidden, 10, 11, 12
text: TD+; TD-; RD+; RD-; CT; GND; LEDY+; LEDY-; LEDG+; LEDG-

## HT7133S
designator D?, comment Part Number: HT7133S  (hidden comment: Voltage regulator)
footprint SOT23-3
pins: 1 GND, 2 OUT, 3 IN

## ICM7555ID
designator DD?, comment 555 Timer
Part Number: ICM7555ID
footprint SOP-8
pins: 1 GND, 2 nTRG, 3 OUT, 4 nRST, 5 CNTR, 6 THR, 7 DIS, 8 VDD

## Inductor
designator L?  value 100u  (hidden comment: Inductor)
Coil Inductor; Part Number: B82472G6154M
footprint CDRH127 (Coil 12.3x12.3)
footprint COIL (12.5x12.5) ((12.5х12.5))
footprint Coil 7,30x7,30mm (Precision Wire Wound Inductor, 2-Leads, Body 7,30x7,30mm, IPC Medium Density)
footprint Coil 7.5(12.5)
footprint Coil(12x12)
footprint Coil (8x8) (CDRH8D43)
footprint Coil (6x6, 7x7) (CDRH(5/6)D28)
footprint LQH32CN
footprint SDR0604 (Coil 6x6)
footprint Ferrite Bead 0805
footprint LQH43PN
footprint CDRH104 (Coil 12.3x12.3)
footprint BPR_2_1_Drossel
footprint CM45 Inductor (Molded Inductor, 2-Leads, Body 4,50x3,20mm, IPC Medium Density)
footprint SDR1005 (SDR1005 Coil)
footprint COil 1210
footprint CDRH124 (Coil 12.3x12.3)
pins: 1, 2

## IR2108
designator DD?, comment Part Number: IR2108  (hidden comment: MOSFET driver)
footprint SOP-8
pins: 1 VCC, 2 HIN, 3 ~{LIN}, 4 COM, 5 LO, 6 Vs, 7 HO, 8 VB

## IR2181
designator D?, comment MOSFET driver  Part Number: IR2181
footprint SOP-8
pins: 1 HIN, 2 LIN, 3 COM, 4 LO, 5 VCC, 6 VS, 7 HO, 8 VB

## IRF7343PbF
designator VT?, comment Transistor N/P chanels
footprint SOP-8
part A pins: 1, 2, 7, 8
part B pins: 3, 4, 5, 6

## IRM-*-*
designator GB?, comment Part Number: IRM-*-*  (hidden comment: AC/DC Module)
AC/DC Module 2W 5V
footprint IRM-02
footprint IRM-05
pins: AC/L, AC/N, OUT+, OUT-

## ISO3082DWR
designator DD?, comment Isolated RS-485 transceiver
RS-485 transceiver; Part Number: ISO3082DWR; URL: https://www.ti.com/lit/ds/symlink/iso3082.pdf?ts=1593096883566&ref_url=https%253A%252F%252Fwww.google.com%252F
footprint SOIC_W16 (SOP, 16-Leads, Body 10,30x7,50mm, Pitch 1,27mm, IPC Medium Density)
pins: 1 VCC1, 2 GND1, 3 R, 4 ~{RE}, 5 DE, 6 D, 7 GND1, 8 GND1, 9 GND2, 10 GND2, 11 NC hidden, 12 A, 13 B, 14 NC hidden, 15 GND2, 16 VCC2

## Jumper
designator SB?, comment 2.54mm Jumper  (value not drawn)
PLS-02 + 2.54mm Jumper; Part Number: PLS-02
footprint PLS-02
pins: 1, 2

## Jumpers 2x1
designator SB?  (value not drawn)
PLS-03 + 2.54mm Jumper; Part Number: PLS-03
footprint header 3 jumper
pins: 1, 2, 3

## KCPDA04-103
designator HL?, comment Digit Display
15-Digit Display; Part Number: KCPDA04-103
footprint KCPDA04-103
part A pins: 1 P, 2 N, 3 M, 4 L, 5 DP, 14 C, 15 D, 16 E, 17 G, 18 A, 19 B, 28 K, 29 J, 30 AN, 31 H, 32 F
part B pins: 6 P, 7 N, 8 M, 9 L, 10 DP, 11 C, 12 D, 13 E, 20 G, 21 A, 22 B, 23 K, 24 J, 25 AN, 26 H, 27 F

## KLS12-TL193-1x1-G/Y-03-S
designator XS?, comment RJ-45 connector
RJ-45 with magnetics module; Part Number: KLS12-TL193-1x1-G/Y-03-S
footprint KLS12-TL193-1x1-G/Y-03-S (RJ-45)
pins: 0 hidden, 1, 2, 3, 4 hidden, 5 hidden, 6, 7, 8, 9 12, 10 11, 11 2, 12 1
text: TD+; TD-; CT; RD+; RD-; LEDY+; LEDY-; LEDG+; LEDG-

## L78**
designator D?, comment Part Number: L78**  (hidden comment: Voltage regulator)
footprint D2PAK
pins: 1 IN, 2 OUT, 3 GND

## L78L33ABUTR
designator D?, comment Part Number: L78L33ABUTR  (hidden comment: Voltage regulator)
footprint SOT89
pins: 1 OUT, 2 GND, 3 IN

## L78M05
designator D?, comment Part Number: L78M05  (hidden comment: Voltage regulator)
footprint DPAK
pins: 1 IN, 2 OUT, 3 GND

## L5973D
designator D?, comment Part Number: L5973D  (hidden comment: DC/DC regulator)
footprint HSOP8 (ST1S14)
pins: 1 OUT, 2 SYNC, 3 INH, 4 COMP, 5 FB, 6 VREF, 7 GND, 8 VCC, 9 GND

## L5981
designator D?, comment Part Number: L5981  (hidden comment: IC)
DC/DC step-down converter
footprint VFQFPN8
pins: 1 OUT, 2 SYNC, 3 INH, 4 COMP, 5 FB, 6 FSW, 7 GND, 8 VCC, 9 GND

## L6902
designator D?
DC/DC step-down regulator; Part Number: L6902
footprint SOP-8
pins: 1 OUT, 2 CS+, 3 CS-, 4 COMP, 5 FB, 6 VREF, 7 GND, 8 VCC

## L7987
designator DD?, comment Part Number: L7987  (hidden comment: DC/DC regulator)
Step down DC/DC regulator; URL: https://www.st.com/resource/en/datasheet/l7987.pdf
footprint HTSSOP16
pins: 1 VBIAS, 2 VIN, 3 VIN, 4 VCC, 5 EN, 6 SS, 7 SYNCH, 8 COMP, 9 FB, 10 FSW, 11 ILIM, 12 PGOOD, 13 LX, 14 LX, 15 BOOT, 16 GND, 17 GND

## LAN8720
designator DD?, comment Ethernet transceiver
RMII 10/100 Ethernet transceiver; URL: http://ww1.microchip.com/downloads/en/devicedoc/00002165b.pdf
footprint QFN24 (PQFN, 24-Leads, Body 4,00x4,00mm, Pitch 0,50mm, Thermal Pad 2,75x2,75mm, IPC Medium Density)
pins: 1 VDD2A, 2 LED2/nINT, 3 LED1/REGOFF, 4 XTAL2, 5 XTAL1/CLKINTAL, 6 VDDCR, 7 RXD1/MODE1, 8 RXD0/MODE0, 9 VDDIO, 10 RXER/PHYD0, 11 CRS_DV/MODE2, 12 MDIO, 13 MDC, 14 nINT/REFCLK0, 15 nRST, 16 TXEN, 17 TXD0, 18 TXD1, 19 VDD1A, 20 TXN, 21 TXP, 22 RXN, 23 RXP, 24 RBIAS, 25 GND

## LD3985
designator DD?, comment Voltage regulators  (value not drawn)
Part Number: LD3985M33R
footprint SOT-23-5
pins: 1 VIN, 2 GND, 3 INH, 4 BYPASS, 5 VOUT

## LED
designator VD?  (value not drawn)
Part Number: C503D-WAN-CCBEB151
footprint LED 0603 (RED) (RED SMD LED 0603)
footprint LED g2 (Green, 3mm)
footprint LED g1 (Green, 3mm)
footprint LED 5mm
footprint LED 0805 (BLUE)
footprint LED 0805 (GREEN)
footprint LED 0805 (RED)
footprint LED 0805 (YELLOW)
footprint LED 3mm
footprint LED 5mm spacer 5mm
footprint LED5050
footprint LED Square Hor Blue (LED Square Blue horizontally)
footprint LED Square Hor Green (LED Square Green horizontally)
footprint LED 3mm spacer 5mm (green 3 mm 5.08 spacer)
pins: A, K

## LED bright
designator VD?, comment LED  (value not drawn)
LED Bright; Part Number: C503D-WAN-CCBEB151
footprint LED bright
pins: 0 1 hidden, A, K

## LED KB-***
designator VD?, comment Part Number: KB-2785YW  (hidden comment: 8x LED)
LED x8
footprint KB-2785YW (LED YELLOW)
footprint KB-2885SGD (LED GREEN)
footprint KB-H100SURKW (LED RED)
pins: 1, 2, 3 1, 4 2, 5 2, 6 1, 7 1, 8 2, 9 2, 10 1, 11 1, 12 2, 13 2, 14 1, 15 1, 16 2

## LED_1
designator VD?, comment LED  (value not drawn)
THT SMD led; Part Number: KM2520
footprint KM2520
pins: 0 1 hidden, A, K

## LM317LBD
designator DA?, comment Voltage regulator
Voltage/Current  regulator; Part Number: LM317LBD; ComponentLink1Description: New link; ComponentLink1URL: https://ru.mouser.com/datasheet/2/308/LM317L-D-1810893.pdf
footprint LM317LBD
pins: ADJ, IN, NC   hidden, OUT

## LM317MBDTRKG
designator DA?, comment Voltage regulator
Voltage/Current  regulator; Part Number: LM317MBDTRKG; ComponentLink1Description: New link; ComponentLink1URL: https://ru.mouser.com/datasheet/2/308/LM317L-D-1810893.pdf
footprint DPAK
pins: 1 IN, 2 ADJ, 3 OUT

## LM1117
designator D?, comment Part Number: LM1117  (hidden comment: Voltage regulator)
footprint SOT-223 (LM1117-3.3)
pins: 1 GND, 2 OUT, 3 IN

## LM2576
designator DA?, comment DC/DC stepdown regulator
DC/DC step-down regulator; Part Number: LM2576; URL: https://www.ti.com/lit/ds/symlink/lm2576.pdf?ts=1593699782056&ref_url=https%253A%252F%252Fwww.ti.com%252Fsitesearch%252Fdocs%252Funiversalsearch.tsp%253FsearchTerm%253Dlm2576
footprint TO-263 (D2PAK 5)
pins: 1 Vin, 2 Vout, 3 GND, 4 FB, 5 ~{ON}/OFF, 6 GND

## LTV-81*S
designator VD?, comment Part Number: LTV-81*S  (hidden comment: Optocoupler)
footprint SMD-4
pins: 1, 2, 3, 4

## M24C16-RMN6TP
designator DD?, comment Part Number: M24C16-RMN6TP  (hidden comment: EEPROM IC)
footprint SOP-8
pins: 1 NC hidden, 2 NC hidden, 3 NC hidden, 4 Vss, 5 SDA, 6 SCL, 7 ~{WC}, 8 Vcc

## M41T00M6F
designator D?, comment Part Number: M41T00M6F  (hidden comment: RTC IC)
footprint SOP-8
pins: 1 OSCIN, 2 OSCOUT, 3 VBAT, 4 GND, 5 SDA, 6 SCL, 7 FT/OUT, 8 VDD

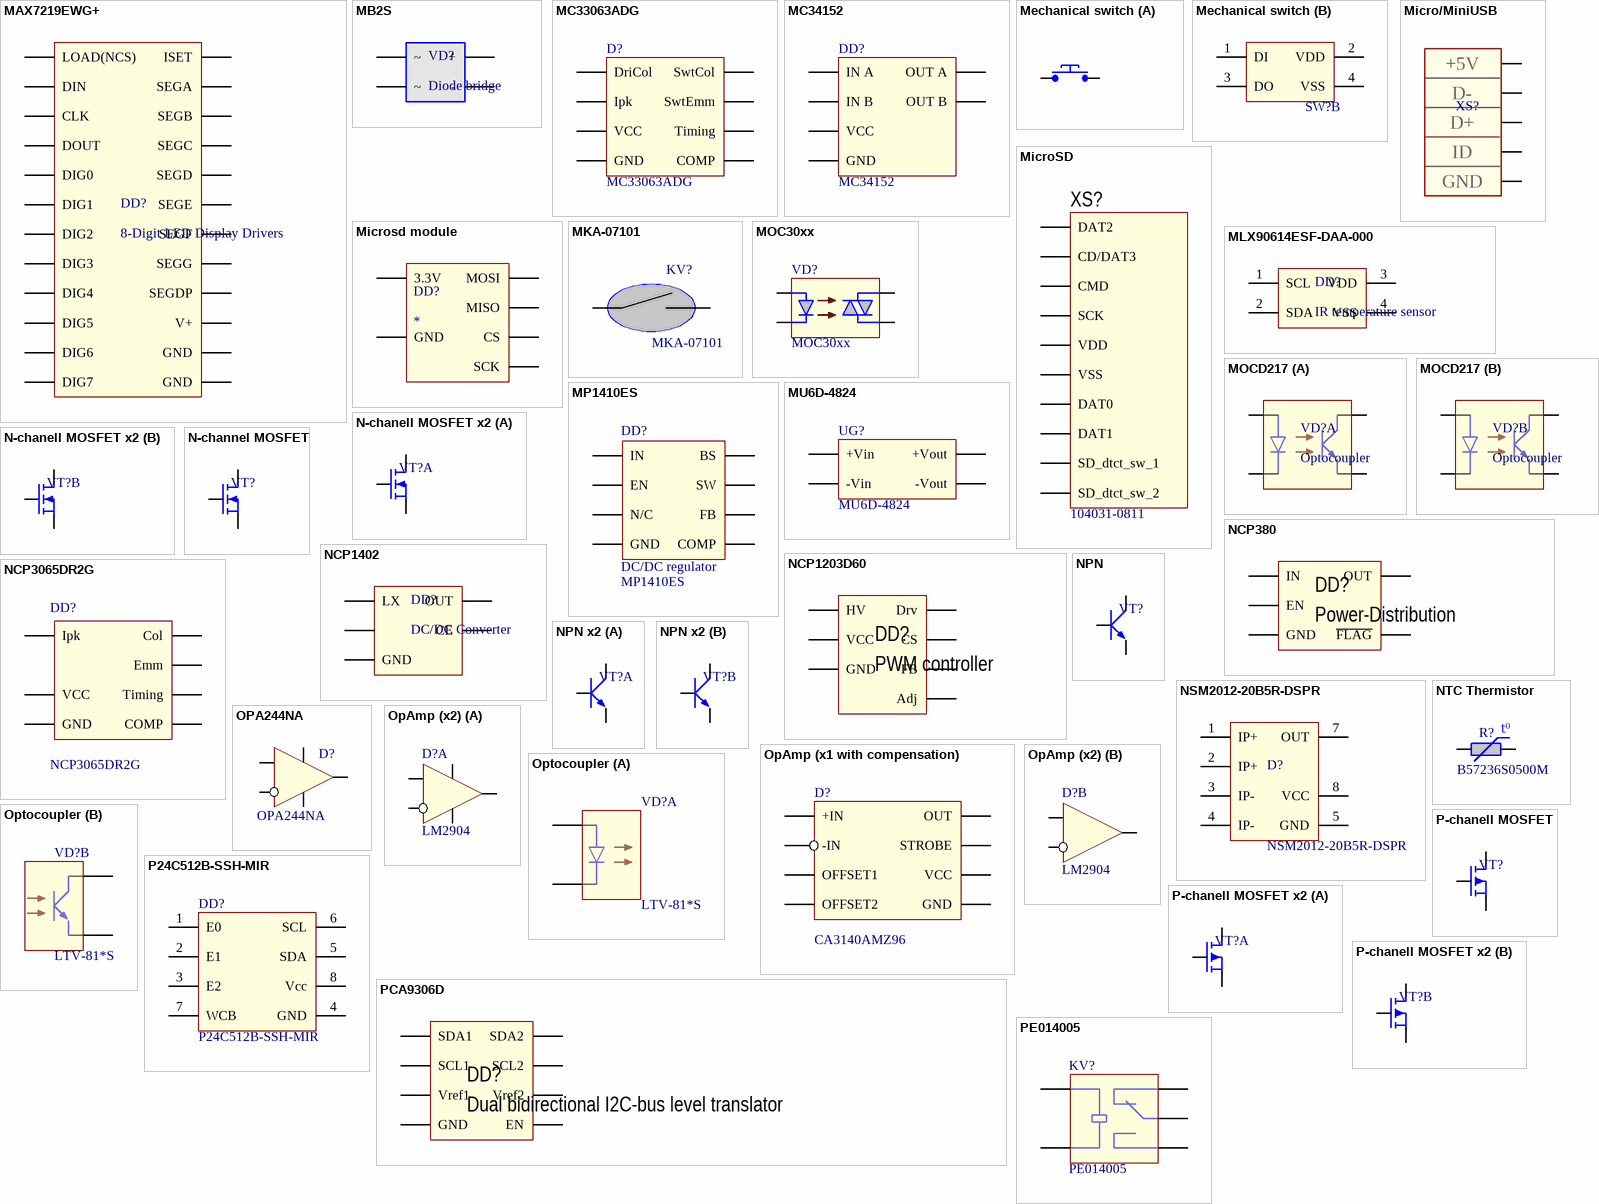
[diagram p5: symbols MAX7219EWG+ to PE014005]

## MAX7219EWG+
designator DD?, comment 8-Digit LED Display Drivers
Part Number: MAX7219EWG
footprint SOP24 (SOP, 24-Leads, Body 15,40x7,50mm, Pitch 1,27mm, IPC Medium Density)
pins: 1 DIN, 2 DIG0, 3 DIG4, 4 GND, 5 DIG6, 6 DIG2, 7 DIG3, 8 DIG7, 9 GND, 10 DIG5, 11 DIG1, 12 LOAD(NCS), 13 CLK, 14 SEGA, 15 SEGF, 16 SEGB, 17 SEGG, 18 ISET, 19 V+, 20 SEGC, 21 SEGE, 22 SEGDP, 23 SEGD, 24 DOUT

## MB2S
designator VD?, comment Diode bridge
Part Number: MB2S
footprint MBS (MBS diode bridge)
pins: 1 +, 2 -, 3 ~, 4 ~

## MC33063ADG
designator D?, comment Part Number: MC33063ADG  (hidden comment: DC/DC regulator)
footprint SOP-8
pins: 1 SwtCol, 2 SwtEmm, 3 Timing, 4 GND, 5 COMP, 6 VCC, 7 Ipk, 8 DriCol

## MC34152
designator DD?, comment Part Number: MC34152  (hidden comment: MOSFET driver)
footprint SOP-8
pins: 1 NC hidden, 2 IN A, 3 GND, 4 IN B, 5 OUT B, 6 VCC, 7 OUT A, 8 NC hidden

## Mechanical switch
designator SW?, comment Outemu with led  (value not drawn)
Mechanical switch Outemu with led
footprint Outemu switch (Outemu with LED)
part A pins: B1 1, B2 2
part B pins: 1 DI, 2 VDD, 3 DO, 4 VSS

## Micro/MiniUSB
designator XS?, comment Connector  (value not drawn)
footprint Micro USB (473460001, Molex)
footprint Mini USB
footprint Mini USB THT
pins: 0 hidden, 1, 2, 3, 4, 5
text: +5V; D-; D+; ID; GND

## MicroSD
designator XS?, comment Part Number: 104031-0811  (hidden comment: Connector MicroSD)
footprint 104031-0811
footprint 502570-0893
pins: 1 DAT2, 2 CD/DAT3, 3 CMD, 4 VDD, 5 SCK, 6 VSS, 7 DAT0, 8 DAT1, 9 SD_dtct_sw_1, 10 SD_dtct_sw_2

## Microsd module
designator DD?
Microsd module; Part Number: Microsd module
footprint microsd module
pins: 1 3.3V, 2 CS, 3 MOSI, 4 SCK, 5 MISO, 6 GND

## MKA-07101
designator KV?, comment Part Number: MKA-07101  (hidden comment: Gerkon NO)
Тип компонента: Геркон; Наименование: MKA-07101
footprint MKA-07101 (Gerkon NO)
pins: 1 C, 2 NC

## MLX90614ESF-DAA-000
designator DD?, comment IR temperature sensor
Part Number: MLX90614ESF-DAA-000
footprint MLX90614ESF-DAA-000
footprint MLX90614ESF-DAA-000(2)
pins: 1 SCL, 2 SDA, 3 VDD, 4 VSS

## MOC30xx
designator VD?, comment Part Number: MOC30xx  (hidden comment: Optocoupler)
footprint DIP6
footprint SMDIP-6
pins: 1, 2, 3 NC hidden, 4, 5 NC hidden, 6

## MOCD217
designator VD?, comment Optocoupler
Part Number: LTV-817S
footprint MOCD
part A pins: 1, 2, 7, 8
part B pins: 3, 4, 5, 6

## MP1410ES
designator DD?, comment DC/DC regulator  Part Number: MP1410ES
footprint SOP-8
pins: 1 BS, 2 IN, 3 SW, 4 GND, 5 FB, 6 COMP, 7 EN, 8 N/C

## MU6D-4824
designator UG?, comment Part Number: MU6D-4824  (hidden comment: DC/DC converter)
footprint MU6D-4824 (DC/DC)
pins: IN+ +Vin, IN- -Vin, NC hidden, OUT+ +Vout, OUT- -Vout

## N-chanell MOSFET x2
designator VT?, comment Transistor N-channel dual  (value not drawn)
Part Number: IRF5852PbF; URL: https://static.chipdip.ru/lib/300/DOC000300076.pdf
footprint TSOP-6
footprint SOT363(SC-88) NEX MOSFET
part A pins: 1, 5, 6
part B pins: 2, 3, 4

## N-channel MOSFET
designator VT?, comment Transistor N-channel  (value not drawn)
Part Number: FDN337N
footprint DPAK
footprint SOT23-3
footprint SOT-223 (Transistor)
footprint TO220
footprint D2PAK
footprint SOT323
footprint SOP-8 (transistor single)
pins: 1, 2, 3

## NCP380
designator DD?, comment Power‐Distribution
Power‐Distribution / Switches, Fixed/Adjustable / Current‐Limiting; Part Number: NCP380; URL: https://www.onsemi.com/pub/Collateral/NCP380-D.PDF
footprint SOT-23-5
pins: 1 OUT, 2 GND, 3 ~{FLAG}, 4 EN, 5 IN

## NCP1203D60
designator DD?, comment PWM controller
Part Number: NCP1203D60
footprint SOP-8
pins: 1 Adj, 2 FB, 3 CS, 4 GND, 5 Drv, 6 VCC, 7 NC hidden, 8 HV

## NCP1402
designator DD?, comment DC/DC Converter
footprint SOT-23-5
pins: 1 CE, 2 OUT, 3 NC, 4 GND, 5 LX

## NCP3065DR2G
designator DD?, comment Part Number: NCP3065DR2G  (hidden comment: DC/DC regulator)
footprint SOP-8
pins: 1 Col, 2 Emm, 3 Timing, 4 GND, 5 COMP, 6 VCC, 7 Ipk, 8 DriCol hidden

## NPN
designator VT?, comment Transistor NPN  (value not drawn)
Part Number: BC847C
footprint DPAK
footprint SOT23-3
pins: 1, 2, 3

## NPN x2
designator VT?, comment Transistor NPN dual  (value not drawn)
Part Number: BC817DS; URL: https://static.chipdip.ru/lib/801/DOC004801214.pdf
footprint TSOP-6
part A pins: 1, 2, 6
part B pins: 3, 4, 5

## NSM2012-20B5R-DSPR
designator D?, comment Part Number: NSM2012-20B5R-DSPR  (hidden comment: Current sensor)
footprint SOP-8
pins: 1 IP+, 2 IP+, 3 IP-, 4 IP-, 5 GND, 6 NC hidden, 7 OUT, 8 VCC

## NTC Thermistor
designator R?  Part Number: B57236S0500M  (hidden comment: NTC Thermistor)
footprint B57236S0 (NTC thermistor Inrush current limiters)
pins: 1, 2
text: t⁰

## OPA244NA
designator D?, comment Part Number: OPA244NA  (hidden comment: Operational amplifier)
Тип компонента: Микросхема; Наименование: OPA244NA
footprint SOT-23-5
pins: 1 OUT1, 2 GND, 3 +IN1, 4 -IN1, 5 VCC

## OpAmp (x1 with compensation)
designator D?, comment Part Number: CA3140AMZ96  (hidden comment: OpAmp x1)
footprint SOP-8
pins: 1 OFFSET1, 2 -IN, 3 +IN, 4 GND, 5 OFFSET2, 6 OUT, 7 VCC, 8 STROBE

## OpAmp (x2)
designator D?, comment Part Number: LM2904  (hidden comment: Operational amplifier)
Operational amplifier dual; Тип компонента: Микросхема; Наименование: LM2904
footprint SOP-8
footprint TSSOP-8
footprint TSSOP-8 thin pads
part A pins: 1 OUT1, 2 -IN1, 3 +IN1, 4 GND, 8 VCC
part B pins: 5 +IN2, 6 -IN2, 7 OUT2

## Optocoupler
designator VD?  Part Number: LTV-81*S  (hidden comment: Optocoupler)
Transistor optocoupler
footprint HSOP8 (ST1S14)
part A pins: 1, 2
part B pins: 3, 4

## P24C512B-SSH-MIR
designator DD?, comment Part Number: P24C512B-SSH-MIR  (hidden comment: EEPROM)
footprint SOP-8
pins: 1 E0, 2 E1, 3 E2, 4 GND, 5 SDA, 6 SCL, 7 WCB, 8 Vcc

## P-chanell MOSFET
designator VT?, comment Transistor P-channel  (value not drawn)
Part Number: AUIRFR6215
footprint DPAK
footprint SOT23-3
footprint SOT-223 (Transistor)
footprint SOT323
footprint SOP-8 (transistor single)
pins: 1, 2, 3

## P-chanell MOSFET x2
designator VT?, comment Transistor P-channel dual  (value not drawn)
Part Number: AUIRFR6215
footprint SOP-8 (transistor dual) (2xP-ch transistor)
part A pins: D1 3, G1 1, S1 2
part B pins: D2 3, G2 1, S2 2

## PCA9306D
designator DD?, comment Dual bidirectional I2C-bus level translator
Part Number: PCA9306D
footprint MiniSO8
pins: 1 GND, 2 Vref1, 3 SCL1, 4 SDA1, 5 SDA2, 6 SCL2, 7 Vref2, 8 EN

## PE014005
designator KV?, comment Part Number: PE014005  (hidden comment: Electromagnetic relay)
Relay
footprint PE SCHRACK relays (simple 3D)
pins: 1, 2, 3, 4, 5

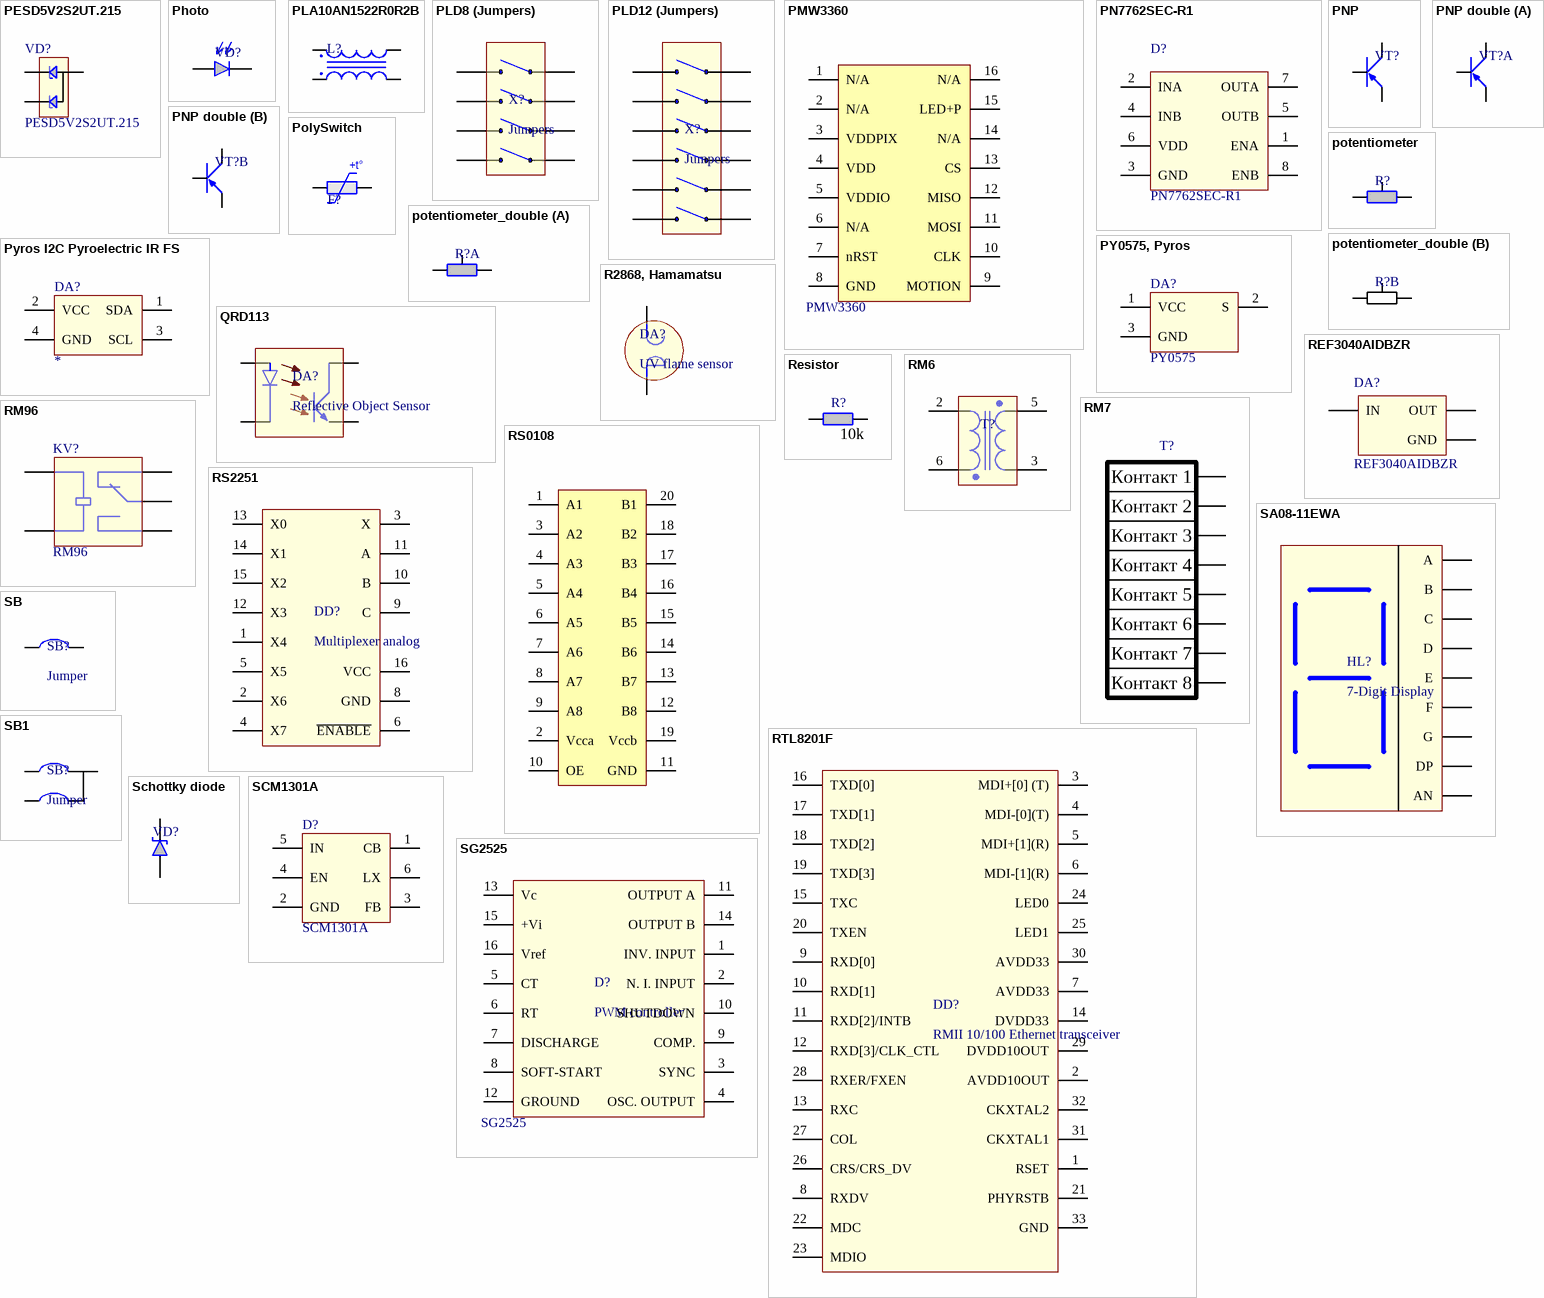
[diagram p6: symbols PESD5V2S2UT.215 to SG2525]

## PESD5V2S2UT.215
designator VD?, comment Part Number: PESD5V2S2UT.215  (hidden comment: TVS diode)
Diode TVS
footprint SOT23-3
pins: 1, 2, 3

## Photo
designator VD?, comment Photodiode  (value not drawn)
Part Number: BPW24R
footprint LED 5mm
pins: A 1, K 2

## PLA10AN1522R0R2B
designator L?, comment Common mode choke  (value not drawn)
Common mode choke | Filter | inductor; Part Number: PLA10AN1522R0R2B
footprint PLA10AN1522R0R2B
pins: 1, 2, 3 2, 4 1

## PLD8 (Jumpers)
designator X?, comment Jumpers
Part Number: PLD8
footprint PLD-8
pins: 1 85, 2 83, 3 84, 4 82, 5 80, 6 81, 7 81, 8 80

## PLD12 (Jumpers)
designator X?, comment Jumpers
Part Number: PLD12
footprint PLD-12
pins: 1 85, 2 83, 3 84, 4 82, 5 80, 6 81, 7 81, 8 80, 9 82, 10 84, 11 83, 12 85

## PMW3360
designator D?, comment Part Number: PMW3360  (hidden comment: Mouse controller)
Mouse laser controller
footprint PMW3360
pins: 1 N/A, 2 N/A, 3 VDDPIX, 4 VDD, 5 VDDIO, 6 N/A, 7 nRST, 8 GND, 9 MOTION, 10 CLK, 11 MOSI, 12 MISO, 13 CS, 14 N/A, 15 LED+P, 16 N/A

## PN7762SEC-R1
designator D?, comment Part Number: PN7762SEC-R1  (hidden comment: IC)
Low-side mosfet driver !!!DO NOT USE THIS PIECE OF CHINESE SHIT!!!
footprint SOP-8
pins: 1 ENA, 2 INA, 3 GND, 4 INB, 5 OUTB, 6 VDD, 7 OUTA, 8 ENB

## PNP
designator VT?, comment Transistor PNP  (value not drawn)
Part Number: *
footprint DPAK
footprint SOT23-3
footprint SOT89 (for transistor)
pins: 1, 2, 3

## PNP double
designator VT?, comment Transistor PNP  (value not drawn)
Part Number: *
footprint SOT363 (SOT363, SC88)
part A pins: 1, 2, 6
part B pins: 3, 4, 5

## PolySwitch
designator F?, comment Fuse  (value not drawn)
Self-recovery Fuse; Part Number: MF-MSMF050-2; Current: 0.5A
footprint fuse (0805)
footprint fuse (1812)
footprint fuse (0679)
footprint Fuse 0451 (LittleFuse 0451(0452))
pins: 1, 2
text: +t°

## potentiometer
designator R?, comment Potentiometer  (value not drawn)
Resistor variable; Part Number: *
footprint Poten
footprint Poten  (2)
footprint 3 Holes (3mm)
footprint 3362P
footprint 3362H
pins: 1, 2, 3

## potentiometer_double
designator R?  (value not drawn)
Resistor variable dual; Part Number: *
footprint Double poten
part A pins: 11 1, 12 3, 13 2
part B pins: 21 1, 22 3, 23 2

## PY0575, Pyros
designator DA?, comment Part Number: PY0575  (hidden comment: IR flame sensor)
footprint PY0575, Pyros
pins: 0 hidden, 1 VCC, 2 S, 3 GND

## Pyros I2C Pyroelectric IR FS
designator DA?, comment IR flame sensor  (value not drawn)
Part Number: *
footprint Pyros I2C Pyroelectric IR FS
pins: 1 SDA, 2 VCC, 3 SCL, 4 GND

## QRD113
designator DA?, comment Reflective Object Sensor
Part Number: QRD113
footprint QRD1113
pins: 1, 2, 3, 4

## R2868, Hamamatsu
designator DA?, comment UV flame sensor
Part Number: R2868
footprint R2868, Hamamatsu
pins: Anode 13, Cathode 14

## REF3040AIDBZR
designator DA?, comment Part Number: REF3040AIDBZR  (hidden comment: Voltage reference)
footprint SOT23-3
pins: 1 IN, 2 OUT, 3 GND

## Resistor
designator R?  value 10k  (hidden comment: Resistor)
Part Number: 0805 10 кОм 5%; Тип компонента: Резистор; Наименование: 0805 10 кОм 5%
footprint R0805
footprint R1206
footprint R_1
footprint R0402 (Chip Resistor, 0402)
footprint R2512 (Chip Resistor, 2-Leads, Body 6,30x3,20mm, IPC Medium Density)
footprint MFR200 (Resistor)
footprint SBCHE
pins: 1, 2

## RM6
designator T?, comment Transformer  (value not drawn)
Part Number: RM6
footprint RM-6, EPCOS
pins: 0 hidden, 1 hidden, 2, 3, 4 hidden, 5, 6

## RM7
designator T?, comment Transformer  (value not drawn)
Part Number: RM-7
footprint RM-7, EPCOS
pins: 0 1 hidden, 1, 2, 3, 4, 5, 6, 7, 8
text: Контакт 1; Контакт 2; Контакт 3; Контакт 4; Контакт 5; Контакт 6; Контакт 7; Контакт 8

## RM96
designator KV?, comment Part Number: RM96  (hidden comment: Electromagnetic relay)
Relay
footprint RM96
pins: 1, 2, 3, 4, 5

## RS0108
designator D?, comment Voltage-Level Translator
Part Number: RS0108
footprint TTSOP20 (TTSOP20 low density)
pins: 1 A1, 2 Vcca, 3 A2, 4 A3, 5 A4, 6 A5, 7 A6, 8 A7, 9 A8, 10 OE, 11 GND, 12 B8, 13 B7, 14 B6, 15 B5, 16 B4, 17 B3, 18 B2, 19 Vccb, 20 B1

## RS2251
designator DD?, comment Multiplexer analog
Part Number: RS2251XTSS16
footprint SO16
pins: 1 X4, 2 X6, 3 X, 4 X7, 5 X5, 6 ~{ENABLE}, 7 NC hidden, 8 GND, 9 C, 10 B, 11 A, 12 X3, 13 X0, 14 X1, 15 X2, 16 VCC

## RTL8201F
designator DD?, comment RMII 10/100 Ethernet transceiver
Part Number: RTL8201F
footprint QFN32 (QFN, 32-Leads, Body 5,00x5,00mm, Pitch 0,50mm, Thermal Pad 3,10x3,10mm, IPC Medium Density)
pins: 1 RSET, 2 AVDD10OUT, 3 MDI+[0] (T), 4 MDI-[0](T), 5 MDI+[1](R), 6 MDI-[1](R), 7 AVDD33, 8 RXDV, 9 RXD[0], 10 RXD[1], 11 RXD[2]/INTB, 12 RXD[3]/CLK_CTL, 13 RXC, 14 DVDD33, 15 TXC, 16 TXD[0], 17 TXD[1], 18 TXD[2], 19 TXD[3], 20 TXEN, 21 PHYRSTB, 22 MDC, 23 MDIO, 24 LED0, 25 LED1, 26 CRS/CRS_DV, 27 COL, 28 RXER/FXEN, 29 DVDD10OUT, 30 AVDD33, 31 CKXTAL1, 32 CKXTAL2, 33 GND

## SA08-11EWA
designator HL?, comment 7-Digit Display
Part Number: SA08-11EWA
footprint sa08-11ewa
pins: A, Anode AN, B, C, D, DP, E, F, G

## SB
designator SB?, comment Jumper
Jumper solder
footprint SB1
pins: 1, 2

## SB1
designator SB?, comment Jumper
Jumper solder
footprint SB2
pins: 1, 2, 3

## Schottky diode
designator VD?  (value not drawn)
Diode Schottky; Тип компонента: Диод; Наименование: B340A-E3/61T; Part Number: B340A-E3/61T
footprint DIODE SMD B
footprint DIODE SMD A
footprint DIODE SMD C
pins: A, K

## SCM1301A
designator D?, comment Part Number: SCM1301A  (hidden comment: DC/DC regulator)
Step down DC/DC regulator
footprint SOT-23-6 (SOT23, 6-Leads, Body 2,92x2,80mm, Pitch 0,95mm, IPC Medium Density)
pins: 1 CB, 2 GND, 3 FB, 4 EN, 5 IN, 6 LX

## SG2525
designator D?, comment PWM controller  Part Number: SG2525
footprint SO16
pins: 1 INV. INPUT, 2 N. I. INPUT, 3 SYNC, 4 OSC. OUTPUT, 5 CT, 6 RT, 7 DISCHARGE, 8 SOFT-START, 9 COMP., 10 SHUTDOWN, 11 OUTPUT A, 12 GROUND, 13 Vc, 14 OUTPUT B, 15 +Vi, 16 Vref

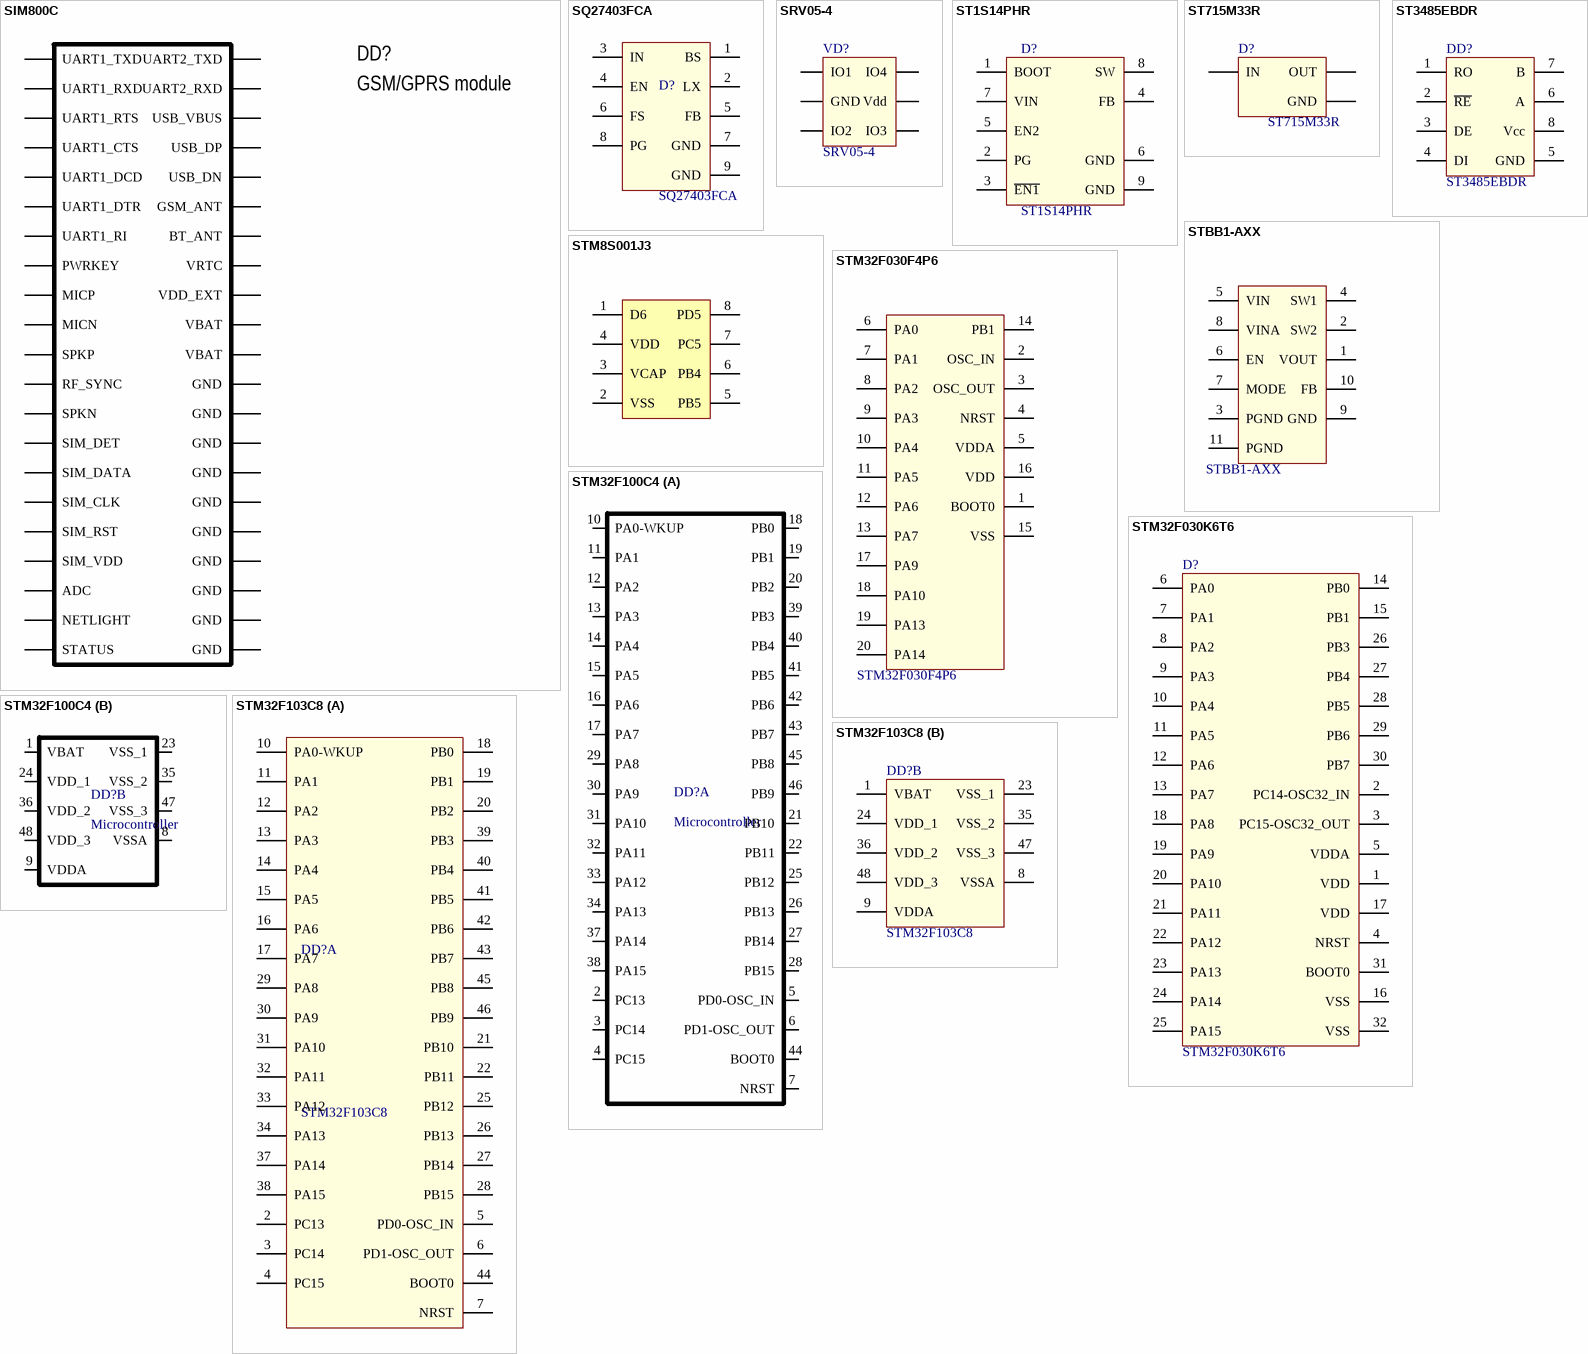
[diagram p7: symbols SIM800C to STM32F103C8]

## SIM800C
designator DD?, comment GSM/GPRS module
Part Number: SIM800C; URL: https://www.elecrow.com/download/SIM800C_Hardware_Design_V1.02.pdf
footprint SIM800C
pins: 1 UART1_TXD, 2 UART1_RXD, 3 UART1_RTS, 4 UART1_CTS, 5 UART1_DCD, 6 UART1_DTR, 7 UART1_RI, 8 GND, 9 MICP, 10 MICN, 11 SPKP, 12 SPKN, 13 GND, 14 SIM_DET, 15 SIM_DATA, 16 SIM_CLK, 17 SIM_RST, 18 SIM_VDD, 19 GND, 20 BT_ANT, 21 GND, 22 UART2_TXD, 23 UART2_RXD, 24 USB_VBUS, 25 USB_DP, 26 USB_DN, 27 GND, 28 VRTC, 29 RF_SYNC, 30 GND, 31 GND, 32 GSM_ANT, 33 GND, 34 VBAT, 35 VBAT, 36 GND, 37 GND, 38 ADC, 39 PWRKEY, 40 VDD_EXT, 41 NETLIGHT, 42 STATUS

## SQ27403FCA
designator D?, comment Part Number: SQ27403FCA  (hidden comment: DC/DC converter)
footprint HSOP8 (ST1S14)
pins: 1 BS, 2 LX, 3 IN, 4 EN, 5 FB, 6 FS, 7 GND, 8 PG, 9 GND

## SRV05-4
designator VD?, comment Part Number: SRV05-4  (hidden comment: TVS diode)
Diode TVS; URL: https://www.st.com/resource/en/datasheet/usblc6-2.pdf
footprint SOT-23-6 (SOT23, 6-Leads, Body 2,92x2,80mm, Pitch 0,95mm, IPC Medium Density)
pins: 1 IO1, 2 GND, 3 IO2, 4 IO3, 5 Vdd, 6 IO4

## ST1S14PHR
designator D?, comment Part Number: ST1S14PHR  (hidden comment: DC/DC controller)
footprint HSOP8 (ST1S14)
pins: 1 BOOT, 2 PG, 3 ~{EN1}, 4 FB, 5 EN2, 6 GND, 7 VIN, 8 SW, 9 GND

## ST715M33R
designator D?, comment Part Number: ST715M33R  (hidden comment: Voltage regulator)
footprint SOT-23-5
pins: 1 NC hidden, 2 GND, 3 NC hidden, 4 IN, 5 OUT

## ST3485EBDR
designator DD?, comment Part Number: ST3485EBDR  (hidden comment: RS-485/RS-422 transceiver)
footprint SOP-8
pins: 1 RO, 2 ~{RE}, 3 DE, 4 DI, 5 GND, 6 A, 7 B, 8 Vcc

## STBB1-AXX
designator D?, comment Part Number: STBB1-AXX  (hidden comment: DC/DC Converter)
DC/DC buck-boost Converter
footprint DFN10
pins: 1 VOUT, 2 SW2, 3 PGND, 4 SW1, 5 VIN, 6 EN, 7 MODE, 8 VINA, 9 GND, 10 FB, 11 PGND

## STM8S001J3
designator D?, comment Microcontroller
Part Number: STM8S001J3
footprint SOP-8
pins: 1 D6, 2 VSS, 3 VCAP, 4 VDD, 5 PB5, 6 PB4, 7 PC5, 8 PD5

## STM32F030F4P6
designator D?, comment Part Number: STM32F030F4P6  (hidden comment: Microcontroller)
footprint TTSOP20 (TTSOP20 low density)
pins: 1 BOOT0, 2 OSC_IN, 3 OSC_OUT, 4 NRST, 5 VDDA, 6 PA0, 7 PA1, 8 PA2, 9 PA3, 10 PA4, 11 PA5, 12 PA6, 13 PA7, 14 PB1, 15 VSS, 16 VDD, 17 PA9, 18 PA10, 19 PA13, 20 PA14

## STM32F030K6T6
designator D?, comment Part Number: STM32F030K6T6  (hidden comment: Microcontroller)
footprint TQFP32 (TQFP, 32-Leads, Body 7,00x7,00mm, Pitch 0,80mm, IPC Medium Density)
pins: 1 VDD, 2 PC14-OSC32_IN, 3 PC15-OSC32_OUT, 4 NRST, 5 VDDA, 6 PA0, 7 PA1, 8 PA2, 9 PA3, 10 PA4, 11 PA5, 12 PA6, 13 PA7, 14 PB0, 15 PB1, 16 VSS, 17 VDD, 18 PA8, 19 PA9, 20 PA10, 21 PA11, 22 PA12, 23 PA13, 24 PA14, 25 PA15, 26 PB3, 27 PB4, 28 PB5, 29 PB6, 30 PB7, 31 BOOT0, 32 VSS

## STM32F100C4
designator DD?, comment Microcontroller
Part Number: STM32F100C4
footprint LQFP-48 (TSQFP, 48-Leads, Body 7,00x7,00mm, Pitch 0,50mm, IPC Medium Density)
part A pins: 2 PC13, 3 PC14, 4 PC15, 5 PD0-OSC_IN, 6 PD1-OSC_OUT, 7 NRST, 10 PA0-WKUP, 11 PA1, 12 PA2, 13 PA3, 14 PA4, 15 PA5, 16 PA6, 17 PA7, 18 PB0, 19 PB1, 20 PB2, 21 PB10, 22 PB11, 25 PB12, 26 PB13, 27 PB14, 28 PB15, 29 PA8, 30 PA9, 31 PA10, 32 PA11, 33 PA12, 34 PA13, 37 PA14, 38 PA15, 39 PB3, 40 PB4, 41 PB5, 42 PB6, 43 PB7, 44 BOOT0, 45 PB8, 46 PB9
part B pins: 1 VBAT, 8 VSSA, 9 VDDA, 23 VSS_1, 24 VDD_1, 35 VSS_2, 36 VDD_2, 47 VSS_3, 48 VDD_3

## STM32F103C8
designator DD?, comment Part Number: STM32F103C8  (hidden comment: Microcontroller)
footprint LQFP-48 (TSQFP, 48-Leads, Body 7,00x7,00mm, Pitch 0,50mm, IPC Medium Density)
part A pins: 2 PC13, 3 PC14, 4 PC15, 5 PD0-OSC_IN, 6 PD1-OSC_OUT, 7 NRST, 10 PA0-WKUP, 11 PA1, 12 PA2, 13 PA3, 14 PA4, 15 PA5, 16 PA6, 17 PA7, 18 PB0, 19 PB1, 20 PB2, 21 PB10, 22 PB11, 25 PB12, 26 PB13, 27 PB14, 28 PB15, 29 PA8, 30 PA9, 31 PA10, 32 PA11, 33 PA12, 34 PA13, 37 PA14, 38 PA15, 39 PB3, 40 PB4, 41 PB5, 42 PB6, 43 PB7, 44 BOOT0, 45 PB8, 46 PB9
part B pins: 1 VBAT, 8 VSSA, 9 VDDA, 23 VSS_1, 24 VDD_1, 35 VSS_2, 36 VDD_2, 47 VSS_3, 48 VDD_3

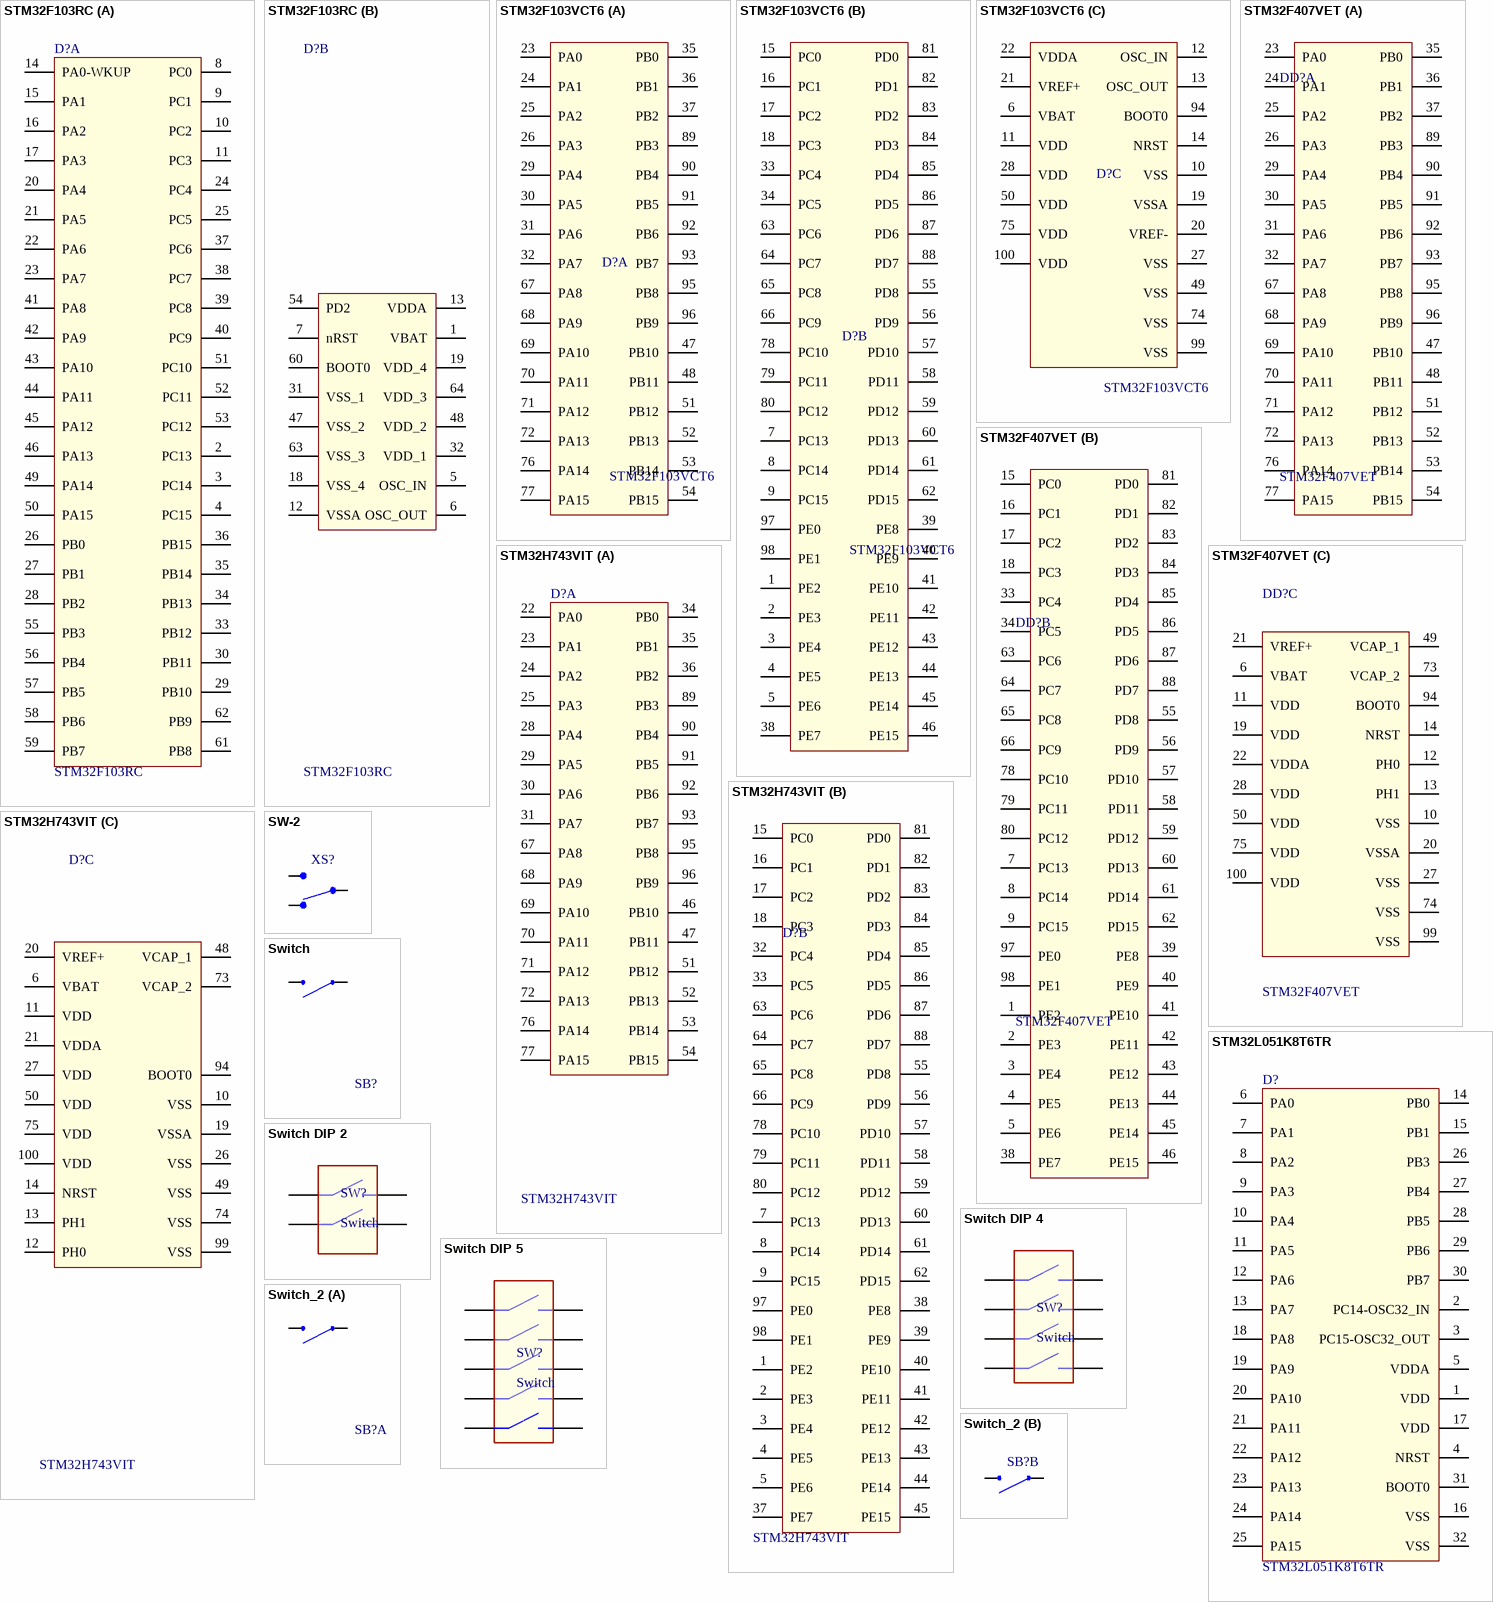
[diagram p8: symbols STM32F103RC to Switch_2]

## STM32F103RC
designator D?, comment Part Number: STM32F103RC  (hidden comment: Microcontroller)
Тип компонента: Микросхема; Наименование: STM32F103RC
footprint LQFP-64
part A pins: 2 PC13, 3 PC14, 4 PC15, 8 PC0, 9 PC1, 10 PC2, 11 PC3, 14 PA0-WKUP, 15 PA1, 16 PA2, 17 PA3, 20 PA4, 21 PA5, 22 PA6, 23 PA7, 24 PC4, 25 PC5, 26 PB0, 27 PB1, 28 PB2, 29 PB10, 30 PB11, 33 PB12, 34 PB13, 35 PB14, 36 PB15, 37 PC6, 38 PC7, 39 PC8, 40 PC9, 41 PA8, 42 PA9, 43 PA10, 44 PA11, 45 PA12, 46 PA13, 49 PA14, 50 PA15, 51 PC10, 52 PC11, 53 PC12, 55 PB3, 56 PB4, 57 PB5, 58 PB6, 59 PB7, 61 PB8, 62 PB9
part B pins: 1 VBAT, 5 OSC_IN, 6 OSC_OUT, 7 nRST, 12 VSSA, 13 VDDA, 18 VSS_4, 19 VDD_4, 31 VSS_1, 32 VDD_1, 47 VSS_2, 48 VDD_2, 54 PD2, 60 BOOT0, 63 VSS_3, 64 VDD_3

## STM32F103VCT6
designator D?, comment Part Number: STM32F103VCT6  (hidden comment: Microcontroller)
footprint TQFP-100 (pitch 0.5 mm)
part A pins: 23 PA0, 24 PA1, 25 PA2, 26 PA3, 29 PA4, 30 PA5, 31 PA6, 32 PA7, 35 PB0, 36 PB1, 37 PB2, 47 PB10, 48 PB11, 51 PB12, 52 PB13, 53 PB14, 54 PB15, 67 PA8, 68 PA9, 69 PA10, 70 PA11, 71 PA12, 72 PA13, 76 PA14, 77 PA15, 89 PB3, 90 PB4, 91 PB5, 92 PB6, 93 PB7, 95 PB8, 96 PB9
part B pins: 1 PE2, 2 PE3, 3 PE4, 4 PE5, 5 PE6, 7 PC13, 8 PC14, 9 PC15, 15 PC0, 16 PC1, 17 PC2, 18 PC3, 33 PC4, 34 PC5, 38 PE7, 39 PE8, 40 PE9, 41 PE10, 42 PE11, 43 PE12, 44 PE13, 45 PE14, 46 PE15, 55 PD8, 56 PD9, 57 PD10, 58 PD11, 59 PD12, 60 PD13, 61 PD14, 62 PD15, 63 PC6, 64 PC7, 65 PC8, 66 PC9, 78 PC10, 79 PC11, 80 PC12, 81 PD0, 82 PD1, 83 PD2, 84 PD3, 85 PD4, 86 PD5, 87 PD6, 88 PD7, 97 PE0, 98 PE1
part C pins: 6 VBAT, 10 VSS, 11 VDD, 12 OSC_IN, 13 OSC_OUT, 14 NRST, 19 VSSA, 20 VREF-, 21 VREF+, 22 VDDA, 27 VSS, 28 VDD, 49 VSS, 50 VDD, 73 NC hidden, 74 VSS, 75 VDD, 94 BOOT0, 99 VSS, 100 VDD